# Altium integrated library Xilinx CoolRunner XPLA3.IntLib: 220 symbols (part 1 of 16)
Pins are listed as number, name and electrical type; pins without a type are passive.

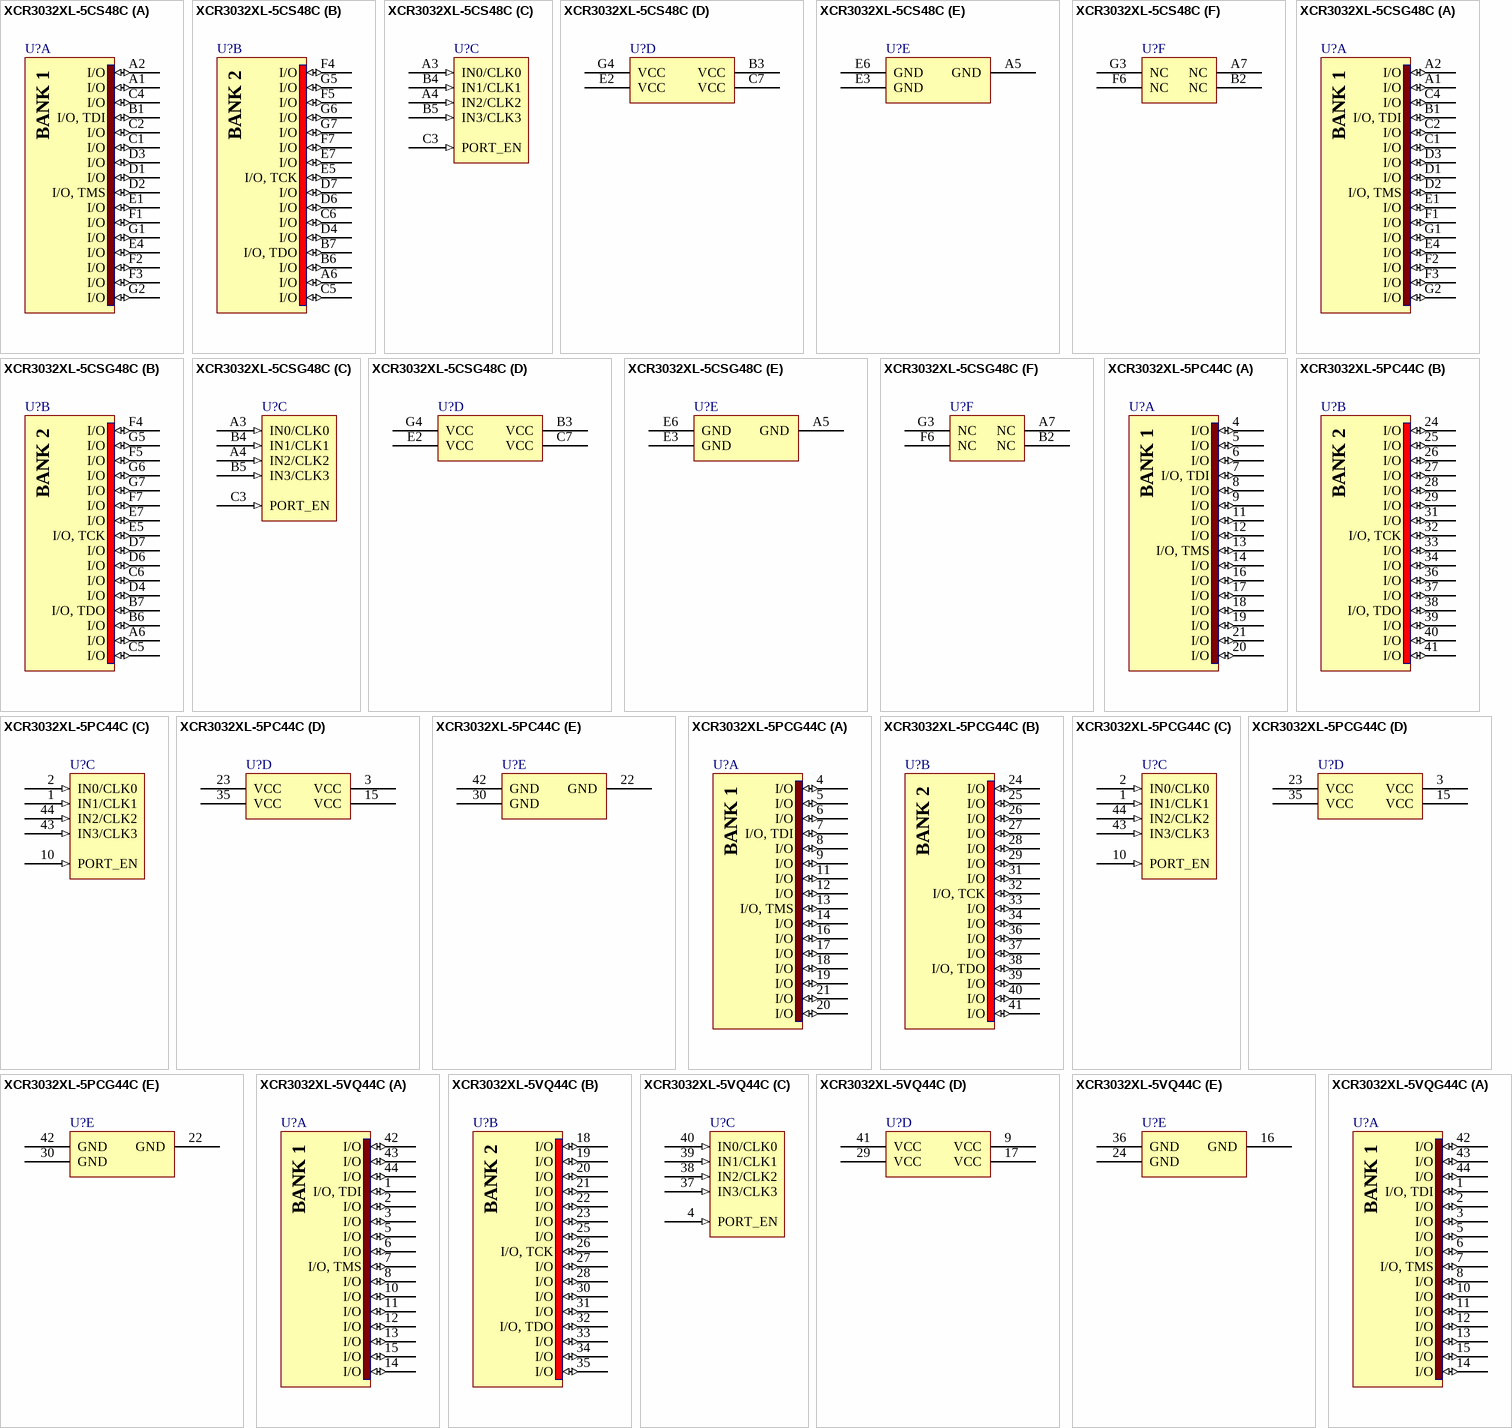
[diagram p0: symbols XCR3032XL-5CS48C to XCR3032XL-5VQG44C]

## XCR3032XL-5CS48C
designator U?
CoolRunner XPLA3 3.3V, 32 Macrocell CPLD, 36 User I/Os, 48-Ball CSBGA, Commercial Grade; DatasheetVersion: ver2.2, Sep-2008; PackageVersion: ver1.2.1, Apr-2005; PackageReference: CS48; PackageDescription: 48-Ball Chip Scale Ball Grid Array (CS48); ComponentLink1Description: Manufacturer URL; ComponentLink1URL: http://www.xilinx.com/; ComponentLink2Description: XCR3032XL Datasheet; ComponentLink2URL: http://www.xilinx.com/support/documentation/data_sheets/ds023.pdf; ComponentLink3Description: CS48 Package Drawing; ComponentLink3URL: http://www.xilinx.com/support/documentation/package_specs/cs48.pdf; ComponentLink4Description: CoolRunner XPLA3 Documents; ComponentLink4URL: http://www.xilinx.com/support/documentation/coolrunner_xpla3.htm
footprint CS48 (BGA, 48-Leads, Body 7x7mm, Pitch 0.8mm)
part A pins: A1 I/O (io), A2 I/O (io), B1 I/O, TDI (io), C1 I/O (io), C2 I/O (io), C4 I/O (io), D1 I/O (io), D2 I/O, TMS (io), D3 I/O (io), E1 I/O (io), E4 I/O (io), F1 I/O (io), F2 I/O (io), F3 I/O (io), G1 I/O (io), G2 I/O (io)
part B pins: A6 I/O (io), B6 I/O (io), B7 I/O, TDO (io), C5 I/O (io), C6 I/O (io), D4 I/O (io), D6 I/O (io), D7 I/O (io), E5 I/O, TCK (io), E7 I/O (io), F4 I/O (io), F5 I/O (io), F7 I/O (io), G5 I/O (io), G6 I/O (io), G7 I/O (io)
part C pins: A3 IN0/CLK0 (in), A4 IN2/CLK2 (in), B4 IN1/CLK1 (in), B5 IN3/CLK3 (in), C3 PORT_EN (in)
part D pins: B3 VCC (power), C7 VCC (power), E2 VCC (power), G4 VCC (power)
part E pins: A5 GND (power), E3 GND (power), E6 GND (power)
part F pins: A7 NC, B2 NC, F6 NC, G3 NC
part A text: BANK 1
part B text: BANK 2

## XCR3032XL-5CSG48C
designator U?
CoolRunner XPLA3 3.3V, 32 Macrocell CPLD, 36 User I/Os, 48-Ball CSBGA, Commercial Grade, Pb-Free; DatasheetVersion: ver2.2, Sep-2008; PackageVersion: ver1.2.1, Apr-2005; PackageReference: CSG48; PackageDescription: 48-Ball Chip Scale Ball Grid Array (CSG48) - Pb-Free; ComponentLink1Description: Manufacturer URL; ComponentLink1URL: http://www.xilinx.com/; ComponentLink2Description: XCR3032XL Datasheet; ComponentLink2URL: http://www.xilinx.com/support/documentation/data_sheets/ds023.pdf; ComponentLink3Description: CSG48 Package Drawing; ComponentLink3URL: http://www.xilinx.com/support/documentation/package_specs/cs48.pdf; ComponentLink4Description: CoolRunner XPLA3 Documents; ComponentLink4URL: http://www.xilinx.com/support/documentation/coolrunner_xpla3.htm
footprint CSG48 (BGA, 48-Leads, Body 7x7mm, Pitch 0.8mm)
part A pins: A1 I/O (io), A2 I/O (io), B1 I/O, TDI (io), C1 I/O (io), C2 I/O (io), C4 I/O (io), D1 I/O (io), D2 I/O, TMS (io), D3 I/O (io), E1 I/O (io), E4 I/O (io), F1 I/O (io), F2 I/O (io), F3 I/O (io), G1 I/O (io), G2 I/O (io)
part B pins: A6 I/O (io), B6 I/O (io), B7 I/O, TDO (io), C5 I/O (io), C6 I/O (io), D4 I/O (io), D6 I/O (io), D7 I/O (io), E5 I/O, TCK (io), E7 I/O (io), F4 I/O (io), F5 I/O (io), F7 I/O (io), G5 I/O (io), G6 I/O (io), G7 I/O (io)
part C pins: A3 IN0/CLK0 (in), A4 IN2/CLK2 (in), B4 IN1/CLK1 (in), B5 IN3/CLK3 (in), C3 PORT_EN (in)
part D pins: B3 VCC (power), C7 VCC (power), E2 VCC (power), G4 VCC (power)
part E pins: A5 GND (power), E3 GND (power), E6 GND (power)
part F pins: A7 NC, B2 NC, F6 NC, G3 NC
part A text: BANK 1
part B text: BANK 2

## XCR3032XL-5PC44C
designator U?
CoolRunner XPLA3 3.3V, 32 Macrocell CPLD, 36 User I/Os, 44-Pin PLCC, Commercial Grade; DatasheetVersion: ver2.1, Mar-2006; PackageVersion: ver1.2, Jun-2004; PackageReference: PC44; PackageDescription: 44-Pin Plastic Leaded Chip Carrier (PC44); Code_JEDEC: MS-047; Code_IPC: PLCC-44; ComponentLink1Description: Manufacturer URL; ComponentLink1URL: http://www.xilinx.com/; ComponentLink2Description: XCR3032XL Datasheet; ComponentLink2URL: http://www.xilinx.com/support/documentation/data_sheets/ds023.pdf; ComponentLink3Description: PC44 Package Drawing; ComponentLink3URL: http://www.xilinx.com/support/documentation/package_specs/pc44.pdf; ComponentLink4Description: CoolRunner XPLA3 Documents; ComponentLink4URL: http://www.xilinx.com/support/documentation/coolrunner_xpla3.htm
footprint PC44_N (Leaded Chip Carrier, 44-Leads, Body 16.6x16.6mm, Pitch 1.27mm, IPC Medium Density)
footprint PC44_L (Leaded Chip Carrier, 44-Leads, Body 16.6x16.6mm, Pitch 1.27mm, IPC High Density)
footprint PC44_M (Leaded Chip Carrier, 44-Leads, Body 16.6x16.6mm, Pitch 1.27mm, IPC Low Density)
part A pins: 4 I/O (io), 5 I/O (io), 6 I/O (io), 7 I/O, TDI (io), 8 I/O (io), 9 I/O (io), 11 I/O (io), 12 I/O (io), 13 I/O, TMS (io), 14 I/O (io), 16 I/O (io), 17 I/O (io), 18 I/O (io), 19 I/O (io), 20 I/O (io), 21 I/O (io)
part B pins: 24 I/O (io), 25 I/O (io), 26 I/O (io), 27 I/O (io), 28 I/O (io), 29 I/O (io), 31 I/O (io), 32 I/O, TCK (io), 33 I/O (io), 34 I/O (io), 36 I/O (io), 37 I/O (io), 38 I/O, TDO (io), 39 I/O (io), 40 I/O (io), 41 I/O (io)
part C pins: 1 IN1/CLK1 (in), 2 IN0/CLK0 (in), 10 PORT_EN (in), 43 IN3/CLK3 (in), 44 IN2/CLK2 (in)
part D pins: 3 VCC (power), 15 VCC (power), 23 VCC (power), 35 VCC (power)
part E pins: 22 GND (power), 30 GND (power), 42 GND (power)
part A text: BANK 1
part B text: BANK 2

## XCR3032XL-5PCG44C
designator U?
CoolRunner XPLA3 3.3V, 32 Macrocell CPLD, 36 User I/Os, 44-Pin PLCC, Commercial Grade, Pb-Free; DatasheetVersion: ver2.1, Mar-2006; PackageVersion: ver1.2, Jun-2004; PackageReference: PCG44; PackageDescription: 44-Pin Plastic Leaded Chip Carrier (PCG44) - Pb-Free; Code_JEDEC: MS-047; Code_IPC: PLCC-44; ComponentLink1Description: Manufacturer URL; ComponentLink1URL: http://www.xilinx.com/; ComponentLink2Description: XCR3032XL Datasheet; ComponentLink2URL: http://www.xilinx.com/support/documentation/data_sheets/ds023.pdf; ComponentLink3Description: PCG44 Package Drawing; ComponentLink3URL: http://www.xilinx.com/support/documentation/package_specs/pc44.pdf; ComponentLink4Description: CoolRunner XPLA3 Documents; ComponentLink4URL: http://www.xilinx.com/support/documentation/coolrunner_xpla3.htm
footprint PCG44_N (Leaded Chip Carrier, 44-Leads, Body 16.6x16.6mm, Pitch 1.27mm, IPC Medium Density)
footprint PCG44_L (Leaded Chip Carrier, 44-Leads, Body 16.6x16.6mm, Pitch 1.27mm, IPC High Density)
footprint PCG44_M (Leaded Chip Carrier, 44-Leads, Body 16.6x16.6mm, Pitch 1.27mm, IPC Low Density)
part A pins: 4 I/O (io), 5 I/O (io), 6 I/O (io), 7 I/O, TDI (io), 8 I/O (io), 9 I/O (io), 11 I/O (io), 12 I/O (io), 13 I/O, TMS (io), 14 I/O (io), 16 I/O (io), 17 I/O (io), 18 I/O (io), 19 I/O (io), 20 I/O (io), 21 I/O (io)
part B pins: 24 I/O (io), 25 I/O (io), 26 I/O (io), 27 I/O (io), 28 I/O (io), 29 I/O (io), 31 I/O (io), 32 I/O, TCK (io), 33 I/O (io), 34 I/O (io), 36 I/O (io), 37 I/O (io), 38 I/O, TDO (io), 39 I/O (io), 40 I/O (io), 41 I/O (io)
part C pins: 1 IN1/CLK1 (in), 2 IN0/CLK0 (in), 10 PORT_EN (in), 43 IN3/CLK3 (in), 44 IN2/CLK2 (in)
part D pins: 3 VCC (power), 15 VCC (power), 23 VCC (power), 35 VCC (power)
part E pins: 22 GND (power), 30 GND (power), 42 GND (power)
part A text: BANK 1
part B text: BANK 2

## XCR3032XL-5VQ44C
designator U?
CoolRunner XPLA3 3.3V, 32 Macrocell CPLD, 36 User I/Os, 44-Pin VQFP, Commercial Grade; DatasheetVersion: ver2.2, Sep-2008; PackageVersion: ver1.2, Jun-2004; PackageReference: VQ44; PackageDescription: 44-Pin Very Thin Quad Flat Pack (VQ44); Code_JEDEC: MS-026-ACB; ComponentLink1Description: Manufacturer URL; ComponentLink1URL: http://www.xilinx.com/; ComponentLink2Description: XCR3032XL Datasheet; ComponentLink2URL: http://www.xilinx.com/support/documentation/data_sheets/ds023.pdf; ComponentLink3Description: VQ44 Package Drawing; ComponentLink3URL: http://www.xilinx.com/support/documentation/package_specs/vq44.pdf; ComponentLink4Description: CoolRunner XPLA3 Documents; ComponentLink4URL: http://www.xilinx.com/support/documentation/coolrunner_xpla3.htm
footprint VQ44_N (Thin QFP, 44-Leads, Body 10x10mm, Pitch 0.8mm, IPC Medium Density)
footprint VQ44_L (Thin QFP, 44-Leads, Body 10x10mm, Pitch 0.8mm, IPC High Density)
footprint VQ44_M (Thin QFP, 44-Leads, Body 10x10mm, Pitch 0.8mm, IPC Low Density)
part A pins: 1 I/O, TDI (io), 2 I/O (io), 3 I/O (io), 5 I/O (io), 6 I/O (io), 7 I/O, TMS (io), 8 I/O (io), 10 I/O (io), 11 I/O (io), 12 I/O (io), 13 I/O (io), 14 I/O (io), 15 I/O (io), 42 I/O (io), 43 I/O (io), 44 I/O (io)
part B pins: 18 I/O (io), 19 I/O (io), 20 I/O (io), 21 I/O (io), 22 I/O (io), 23 I/O (io), 25 I/O (io), 26 I/O, TCK (io), 27 I/O (io), 28 I/O (io), 30 I/O (io), 31 I/O (io), 32 I/O, TDO (io), 33 I/O (io), 34 I/O (io), 35 I/O (io)
part C pins: 4 PORT_EN (in), 37 IN3/CLK3 (in), 38 IN2/CLK2 (in), 39 IN1/CLK1 (in), 40 IN0/CLK0 (in)
part D pins: 9 VCC (power), 17 VCC (power), 29 VCC (power), 41 VCC (power)
part E pins: 16 GND (power), 24 GND (power), 36 GND (power)
part A text: BANK 1
part B text: BANK 2

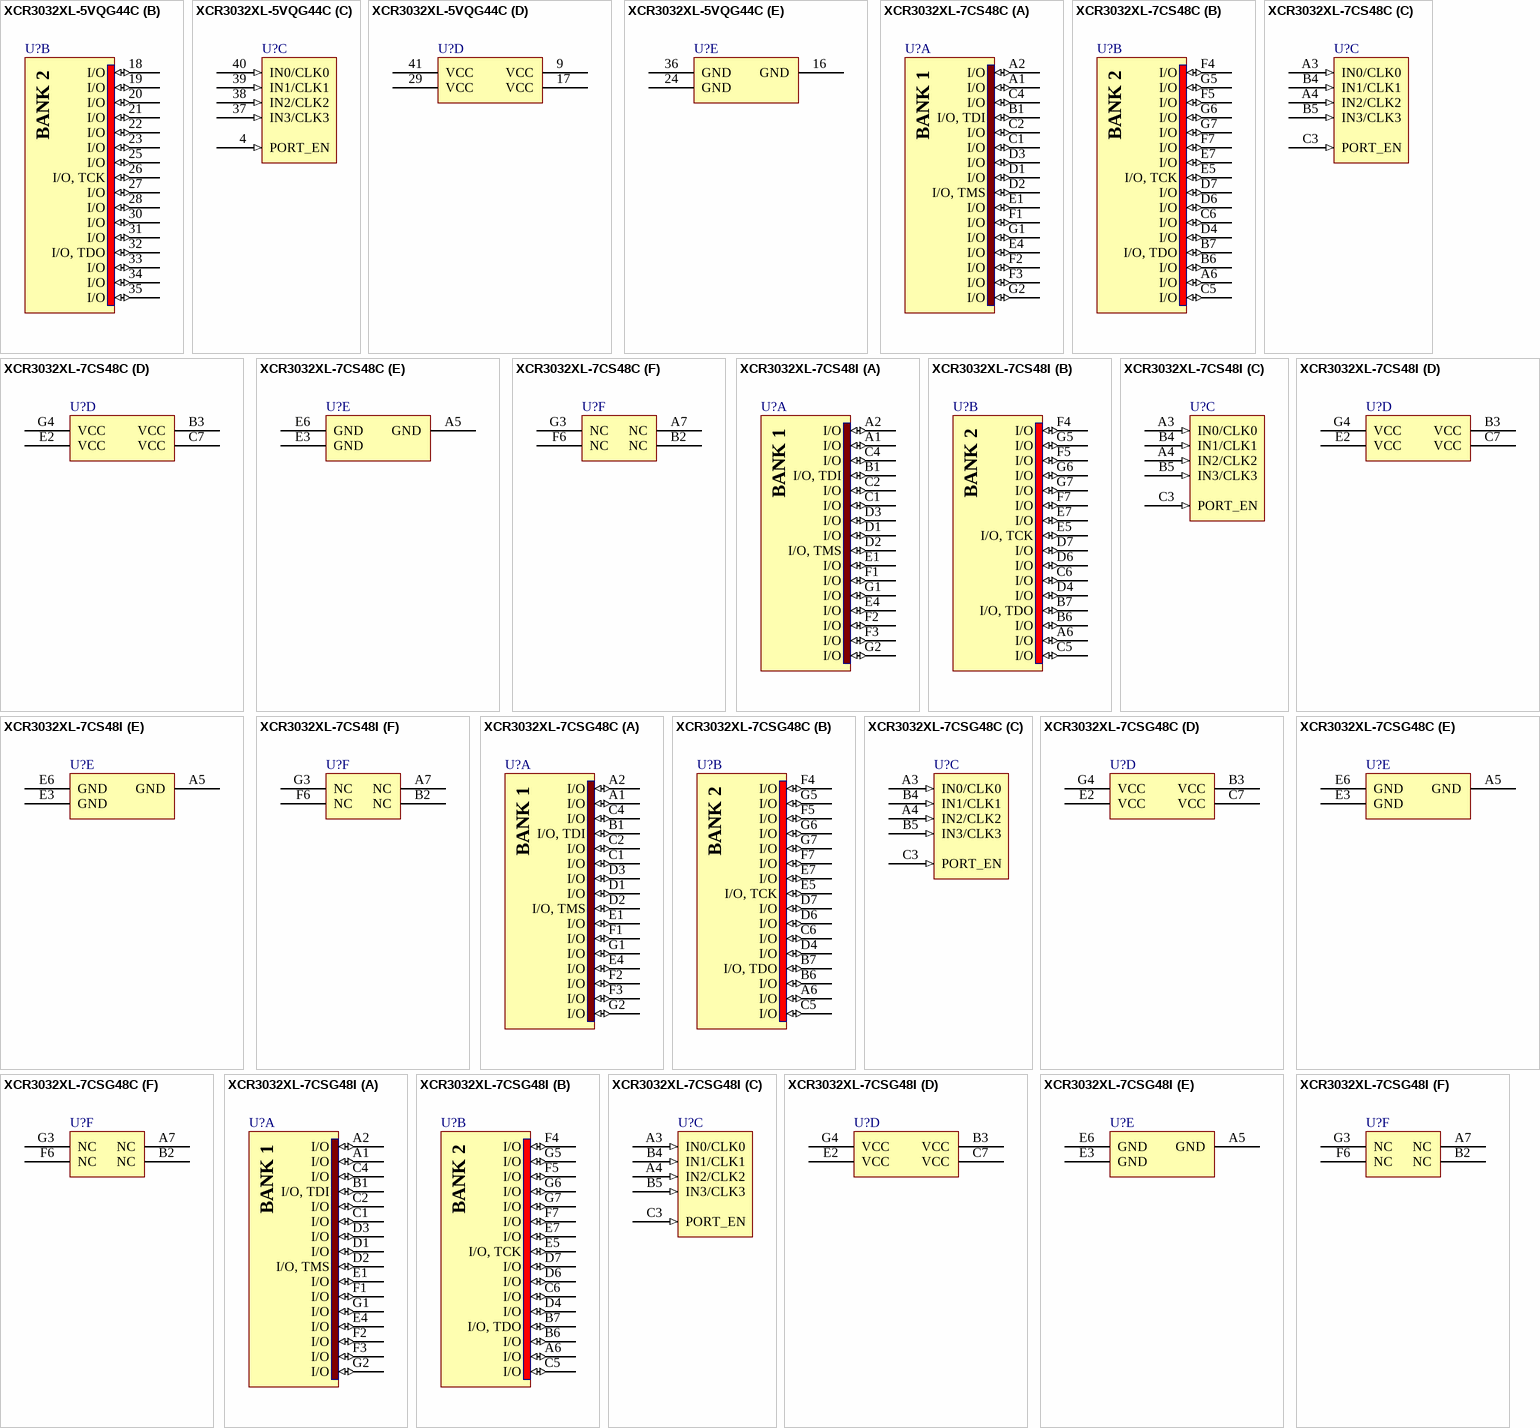
[diagram p1: symbols XCR3032XL-5VQG44C to XCR3032XL-7CSG48I]

## XCR3032XL-5VQG44C
designator U?
CoolRunner XPLA3 3.3V, 32 Macrocell CPLD, 36 User I/Os, 44-Pin VQFP, Commercial Grade, Pb-Free; DatasheetVersion: ver2.2, Sep-2008; PackageVersion: ver1.2, Jun-2004; PackageReference: VQG44; PackageDescription: 44-Pin Very Thin Quad Flat Pack (VQG44) - Pb-Free; Code_JEDEC: MS-026-ACB; ComponentLink1Description: Manufacturer URL; ComponentLink1URL: http://www.xilinx.com/; ComponentLink2Description: XCR3032XL Datasheet; ComponentLink2URL: http://www.xilinx.com/support/documentation/data_sheets/ds023.pdf; ComponentLink3Description: VQG44 Package Drawing; ComponentLink3URL: http://www.xilinx.com/support/documentation/package_specs/vq44.pdf; ComponentLink4Description: CoolRunner XPLA3 Documents; ComponentLink4URL: http://www.xilinx.com/support/documentation/coolrunner_xpla3.htm
footprint VQG44_N (Thin QFP, 44-Leads, Body 10x10mm, Pitch 0.8mm, IPC Medium Density)
footprint VQG44_L (Thin QFP, 44-Leads, Body 10x10mm, Pitch 0.8mm, IPC High Density)
footprint VQG44_M (Thin QFP, 44-Leads, Body 10x10mm, Pitch 0.8mm, IPC Low Density)
part A pins: 1 I/O, TDI (io), 2 I/O (io), 3 I/O (io), 5 I/O (io), 6 I/O (io), 7 I/O, TMS (io), 8 I/O (io), 10 I/O (io), 11 I/O (io), 12 I/O (io), 13 I/O (io), 14 I/O (io), 15 I/O (io), 42 I/O (io), 43 I/O (io), 44 I/O (io)
part B pins: 18 I/O (io), 19 I/O (io), 20 I/O (io), 21 I/O (io), 22 I/O (io), 23 I/O (io), 25 I/O (io), 26 I/O, TCK (io), 27 I/O (io), 28 I/O (io), 30 I/O (io), 31 I/O (io), 32 I/O, TDO (io), 33 I/O (io), 34 I/O (io), 35 I/O (io)
part C pins: 4 PORT_EN (in), 37 IN3/CLK3 (in), 38 IN2/CLK2 (in), 39 IN1/CLK1 (in), 40 IN0/CLK0 (in)
part D pins: 9 VCC (power), 17 VCC (power), 29 VCC (power), 41 VCC (power)
part E pins: 16 GND (power), 24 GND (power), 36 GND (power)
part A text: BANK 1
part B text: BANK 2

## XCR3032XL-7CS48C
designator U?
CoolRunner XPLA3 3.3V, 32 Macrocell CPLD, 36 User I/Os, 48-Ball CSBGA, Commercial Grade; DatasheetVersion: ver2.2, Sep-2008; PackageVersion: ver1.2.1, Apr-2005; PackageReference: CS48; PackageDescription: 48-Ball Chip Scale Ball Grid Array (CS48); ComponentLink1Description: Manufacturer URL; ComponentLink1URL: http://www.xilinx.com/; ComponentLink2Description: XCR3032XL Datasheet; ComponentLink2URL: http://www.xilinx.com/support/documentation/data_sheets/ds023.pdf; ComponentLink3Description: CS48 Package Drawing; ComponentLink3URL: http://www.xilinx.com/support/documentation/package_specs/cs48.pdf; ComponentLink4Description: CoolRunner XPLA3 Documents; ComponentLink4URL: http://www.xilinx.com/support/documentation/coolrunner_xpla3.htm
footprint CS48 (BGA, 48-Leads, Body 7x7mm, Pitch 0.8mm)
part A pins: A1 I/O (io), A2 I/O (io), B1 I/O, TDI (io), C1 I/O (io), C2 I/O (io), C4 I/O (io), D1 I/O (io), D2 I/O, TMS (io), D3 I/O (io), E1 I/O (io), E4 I/O (io), F1 I/O (io), F2 I/O (io), F3 I/O (io), G1 I/O (io), G2 I/O (io)
part B pins: A6 I/O (io), B6 I/O (io), B7 I/O, TDO (io), C5 I/O (io), C6 I/O (io), D4 I/O (io), D6 I/O (io), D7 I/O (io), E5 I/O, TCK (io), E7 I/O (io), F4 I/O (io), F5 I/O (io), F7 I/O (io), G5 I/O (io), G6 I/O (io), G7 I/O (io)
part C pins: A3 IN0/CLK0 (in), A4 IN2/CLK2 (in), B4 IN1/CLK1 (in), B5 IN3/CLK3 (in), C3 PORT_EN (in)
part D pins: B3 VCC (power), C7 VCC (power), E2 VCC (power), G4 VCC (power)
part E pins: A5 GND (power), E3 GND (power), E6 GND (power)
part F pins: A7 NC, B2 NC, F6 NC, G3 NC
part A text: BANK 1
part B text: BANK 2

## XCR3032XL-7CS48I
designator U?
CoolRunner XPLA3 3.3V, 32 Macrocell CPLD, 36 User I/Os, 48-Ball CSBGA, Industrial Grade; DatasheetVersion: ver2.2, Sep-2008; PackageVersion: ver1.2.1, Apr-2005; PackageReference: CS48; PackageDescription: 48-Ball Chip Scale Ball Grid Array (CS48); ComponentLink1Description: Manufacturer URL; ComponentLink1URL: http://www.xilinx.com/; ComponentLink2Description: XCR3032XL Datasheet; ComponentLink2URL: http://www.xilinx.com/support/documentation/data_sheets/ds023.pdf; ComponentLink3Description: CS48 Package Drawing; ComponentLink3URL: http://www.xilinx.com/support/documentation/package_specs/cs48.pdf; ComponentLink4Description: CoolRunner XPLA3 Documents; ComponentLink4URL: http://www.xilinx.com/support/documentation/coolrunner_xpla3.htm
footprint CS48 (BGA, 48-Leads, Body 7x7mm, Pitch 0.8mm)
part A pins: A1 I/O (io), A2 I/O (io), B1 I/O, TDI (io), C1 I/O (io), C2 I/O (io), C4 I/O (io), D1 I/O (io), D2 I/O, TMS (io), D3 I/O (io), E1 I/O (io), E4 I/O (io), F1 I/O (io), F2 I/O (io), F3 I/O (io), G1 I/O (io), G2 I/O (io)
part B pins: A6 I/O (io), B6 I/O (io), B7 I/O, TDO (io), C5 I/O (io), C6 I/O (io), D4 I/O (io), D6 I/O (io), D7 I/O (io), E5 I/O, TCK (io), E7 I/O (io), F4 I/O (io), F5 I/O (io), F7 I/O (io), G5 I/O (io), G6 I/O (io), G7 I/O (io)
part C pins: A3 IN0/CLK0 (in), A4 IN2/CLK2 (in), B4 IN1/CLK1 (in), B5 IN3/CLK3 (in), C3 PORT_EN (in)
part D pins: B3 VCC (power), C7 VCC (power), E2 VCC (power), G4 VCC (power)
part E pins: A5 GND (power), E3 GND (power), E6 GND (power)
part F pins: A7 NC, B2 NC, F6 NC, G3 NC
part A text: BANK 1
part B text: BANK 2

## XCR3032XL-7CSG48C
designator U?
CoolRunner XPLA3 3.3V, 32 Macrocell CPLD, 36 User I/Os, 48-Ball CSBGA, Commercial Grade, Pb-Free; DatasheetVersion: ver2.2, Sep-2008; PackageVersion: ver1.2.1, Apr-2005; PackageReference: CSG48; PackageDescription: 48-Ball Chip Scale Ball Grid Array (CSG48) - Pb-Free; ComponentLink1Description: Manufacturer URL; ComponentLink1URL: http://www.xilinx.com/; ComponentLink2Description: XCR3032XL Datasheet; ComponentLink2URL: http://www.xilinx.com/support/documentation/data_sheets/ds023.pdf; ComponentLink3Description: CSG48 Package Drawing; ComponentLink3URL: http://www.xilinx.com/support/documentation/package_specs/cs48.pdf; ComponentLink4Description: CoolRunner XPLA3 Documents; ComponentLink4URL: http://www.xilinx.com/support/documentation/coolrunner_xpla3.htm
footprint CSG48 (BGA, 48-Leads, Body 7x7mm, Pitch 0.8mm)
part A pins: A1 I/O (io), A2 I/O (io), B1 I/O, TDI (io), C1 I/O (io), C2 I/O (io), C4 I/O (io), D1 I/O (io), D2 I/O, TMS (io), D3 I/O (io), E1 I/O (io), E4 I/O (io), F1 I/O (io), F2 I/O (io), F3 I/O (io), G1 I/O (io), G2 I/O (io)
part B pins: A6 I/O (io), B6 I/O (io), B7 I/O, TDO (io), C5 I/O (io), C6 I/O (io), D4 I/O (io), D6 I/O (io), D7 I/O (io), E5 I/O, TCK (io), E7 I/O (io), F4 I/O (io), F5 I/O (io), F7 I/O (io), G5 I/O (io), G6 I/O (io), G7 I/O (io)
part C pins: A3 IN0/CLK0 (in), A4 IN2/CLK2 (in), B4 IN1/CLK1 (in), B5 IN3/CLK3 (in), C3 PORT_EN (in)
part D pins: B3 VCC (power), C7 VCC (power), E2 VCC (power), G4 VCC (power)
part E pins: A5 GND (power), E3 GND (power), E6 GND (power)
part F pins: A7 NC, B2 NC, F6 NC, G3 NC
part A text: BANK 1
part B text: BANK 2

## XCR3032XL-7CSG48I
designator U?
CoolRunner XPLA3 3.3V, 32 Macrocell CPLD, 36 User I/Os, 48-Ball CSBGA, Industrial Grade, Pb-Free; DatasheetVersion: ver2.2, Sep-2008; PackageVersion: ver1.2.1, Apr-2005; PackageReference: CSG48; PackageDescription: 48-Ball Chip Scale Ball Grid Array (CSG48) - Pb-Free; ComponentLink1Description: Manufacturer URL; ComponentLink1URL: http://www.xilinx.com/; ComponentLink2Description: XCR3032XL Datasheet; ComponentLink2URL: http://www.xilinx.com/support/documentation/data_sheets/ds023.pdf; ComponentLink3Description: CSG48 Package Drawing; ComponentLink3URL: http://www.xilinx.com/support/documentation/package_specs/cs48.pdf; ComponentLink4Description: CoolRunner XPLA3 Documents; ComponentLink4URL: http://www.xilinx.com/support/documentation/coolrunner_xpla3.htm
footprint CSG48 (BGA, 48-Leads, Body 7x7mm, Pitch 0.8mm)
part A pins: A1 I/O (io), A2 I/O (io), B1 I/O, TDI (io), C1 I/O (io), C2 I/O (io), C4 I/O (io), D1 I/O (io), D2 I/O, TMS (io), D3 I/O (io), E1 I/O (io), E4 I/O (io), F1 I/O (io), F2 I/O (io), F3 I/O (io), G1 I/O (io), G2 I/O (io)
part B pins: A6 I/O (io), B6 I/O (io), B7 I/O, TDO (io), C5 I/O (io), C6 I/O (io), D4 I/O (io), D6 I/O (io), D7 I/O (io), E5 I/O, TCK (io), E7 I/O (io), F4 I/O (io), F5 I/O (io), F7 I/O (io), G5 I/O (io), G6 I/O (io), G7 I/O (io)
part C pins: A3 IN0/CLK0 (in), A4 IN2/CLK2 (in), B4 IN1/CLK1 (in), B5 IN3/CLK3 (in), C3 PORT_EN (in)
part D pins: B3 VCC (power), C7 VCC (power), E2 VCC (power), G4 VCC (power)
part E pins: A5 GND (power), E3 GND (power), E6 GND (power)
part F pins: A7 NC, B2 NC, F6 NC, G3 NC
part A text: BANK 1
part B text: BANK 2

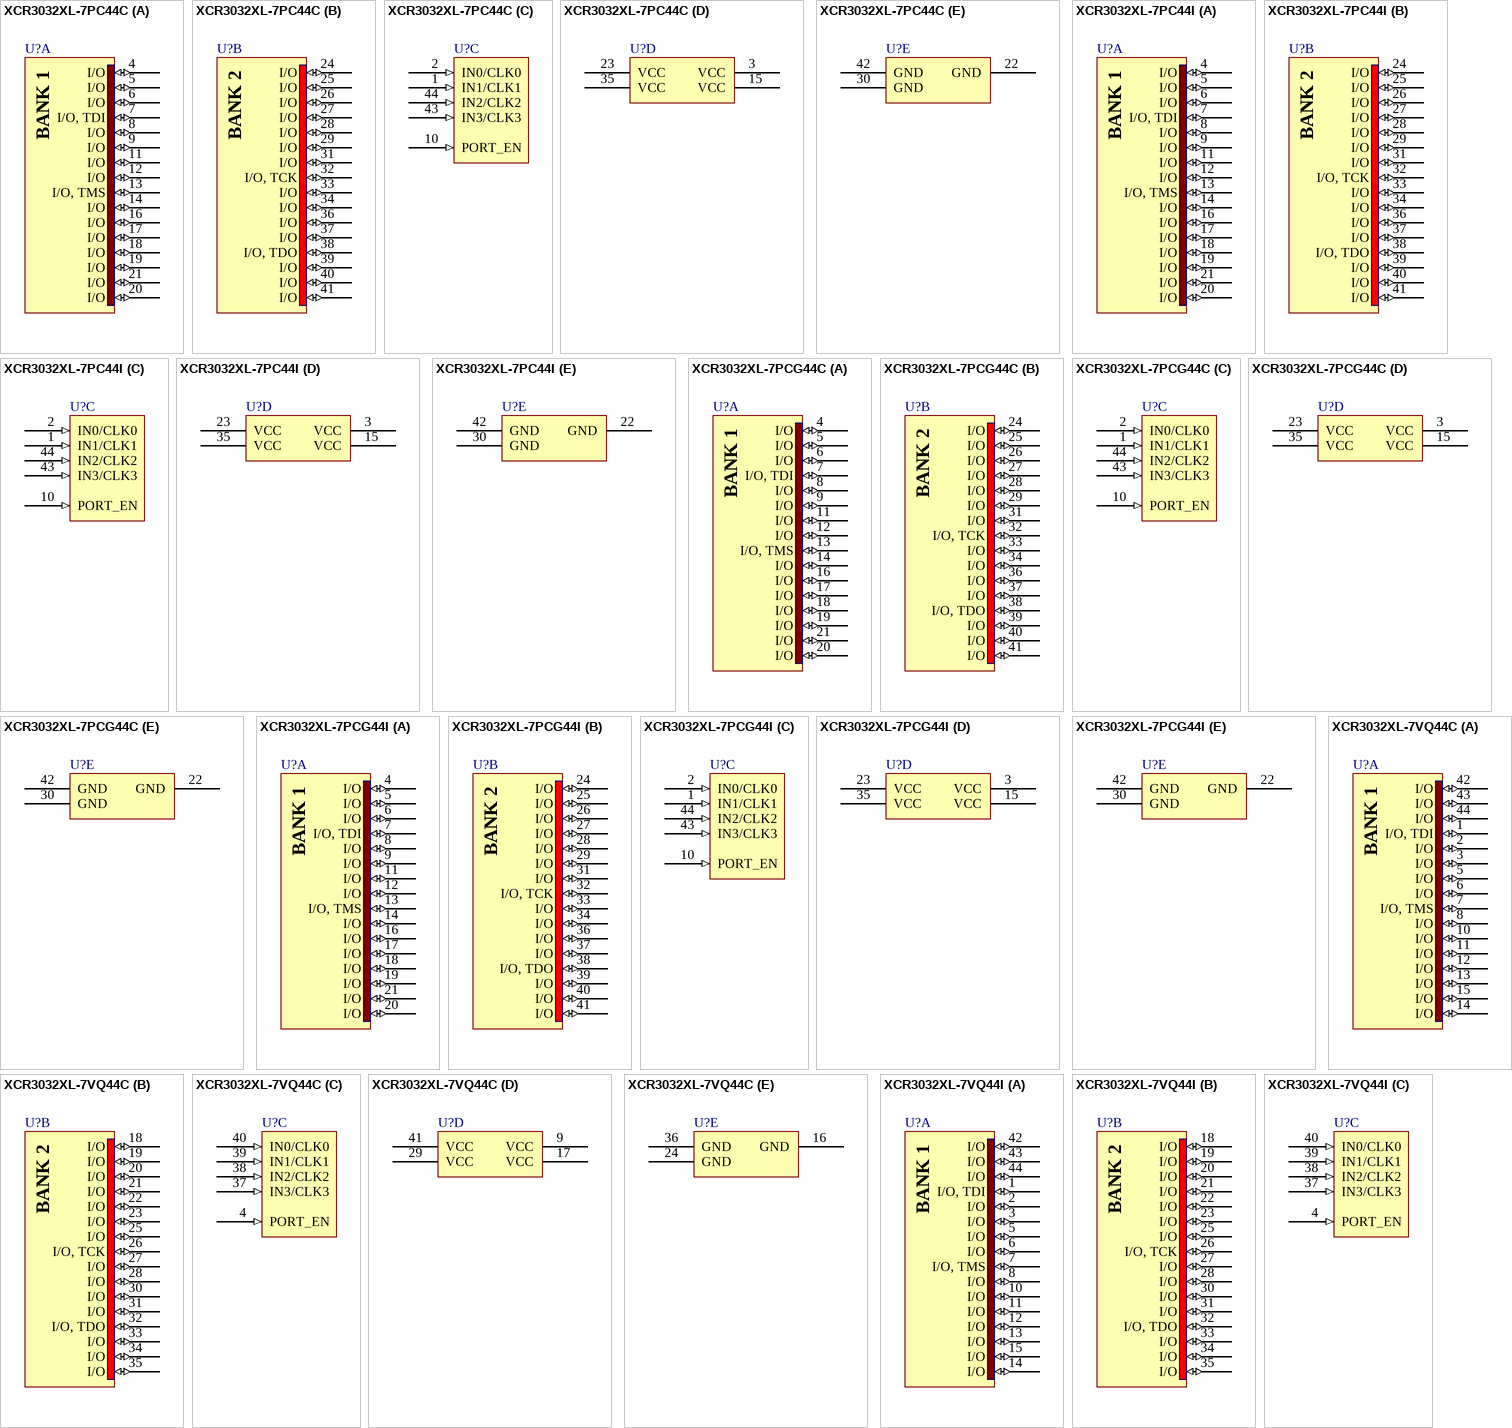
[diagram p2: symbols XCR3032XL-7PC44C to XCR3032XL-7VQ44I]

## XCR3032XL-7PC44C
designator U?
CoolRunner XPLA3 3.3V, 32 Macrocell CPLD, 36 User I/Os, 44-Pin PLCC, Commercial Grade; DatasheetVersion: ver2.1, Mar-2006; PackageVersion: ver1.2, Jun-2004; PackageReference: PC44; PackageDescription: 44-Pin Plastic Leaded Chip Carrier (PC44); Code_JEDEC: MS-047; Code_IPC: PLCC-44; ComponentLink1Description: Manufacturer URL; ComponentLink1URL: http://www.xilinx.com/; ComponentLink2Description: XCR3032XL Datasheet; ComponentLink2URL: http://www.xilinx.com/support/documentation/data_sheets/ds023.pdf; ComponentLink3Description: PC44 Package Drawing; ComponentLink3URL: http://www.xilinx.com/support/documentation/package_specs/pc44.pdf; ComponentLink4Description: CoolRunner XPLA3 Documents; ComponentLink4URL: http://www.xilinx.com/support/documentation/coolrunner_xpla3.htm
footprint PC44_N (Leaded Chip Carrier, 44-Leads, Body 16.6x16.6mm, Pitch 1.27mm, IPC Medium Density)
footprint PC44_L (Leaded Chip Carrier, 44-Leads, Body 16.6x16.6mm, Pitch 1.27mm, IPC High Density)
footprint PC44_M (Leaded Chip Carrier, 44-Leads, Body 16.6x16.6mm, Pitch 1.27mm, IPC Low Density)
part A pins: 4 I/O (io), 5 I/O (io), 6 I/O (io), 7 I/O, TDI (io), 8 I/O (io), 9 I/O (io), 11 I/O (io), 12 I/O (io), 13 I/O, TMS (io), 14 I/O (io), 16 I/O (io), 17 I/O (io), 18 I/O (io), 19 I/O (io), 20 I/O (io), 21 I/O (io)
part B pins: 24 I/O (io), 25 I/O (io), 26 I/O (io), 27 I/O (io), 28 I/O (io), 29 I/O (io), 31 I/O (io), 32 I/O, TCK (io), 33 I/O (io), 34 I/O (io), 36 I/O (io), 37 I/O (io), 38 I/O, TDO (io), 39 I/O (io), 40 I/O (io), 41 I/O (io)
part C pins: 1 IN1/CLK1 (in), 2 IN0/CLK0 (in), 10 PORT_EN (in), 43 IN3/CLK3 (in), 44 IN2/CLK2 (in)
part D pins: 3 VCC (power), 15 VCC (power), 23 VCC (power), 35 VCC (power)
part E pins: 22 GND (power), 30 GND (power), 42 GND (power)
part A text: BANK 1
part B text: BANK 2

## XCR3032XL-7PC44I
designator U?
CoolRunner XPLA3 3.3V, 32 Macrocell CPLD, 36 User I/Os, 44-Pin PLCC, Industrial Grade; DatasheetVersion: ver2.1, Mar-2006; PackageVersion: ver1.2, Jun-2004; PackageReference: PC44; PackageDescription: 44-Pin Plastic Leaded Chip Carrier (PC44); Code_JEDEC: MS-047; Code_IPC: PLCC-44; ComponentLink1Description: Manufacturer URL; ComponentLink1URL: http://www.xilinx.com/; ComponentLink2Description: XCR3032XL Datasheet; ComponentLink2URL: http://www.xilinx.com/support/documentation/data_sheets/ds023.pdf; ComponentLink3Description: PC44 Package Drawing; ComponentLink3URL: http://www.xilinx.com/support/documentation/package_specs/pc44.pdf; ComponentLink4Description: CoolRunner XPLA3 Documents; ComponentLink4URL: http://www.xilinx.com/support/documentation/coolrunner_xpla3.htm
footprint PC44_N (Leaded Chip Carrier, 44-Leads, Body 16.6x16.6mm, Pitch 1.27mm, IPC Medium Density)
footprint PC44_L (Leaded Chip Carrier, 44-Leads, Body 16.6x16.6mm, Pitch 1.27mm, IPC High Density)
footprint PC44_M (Leaded Chip Carrier, 44-Leads, Body 16.6x16.6mm, Pitch 1.27mm, IPC Low Density)
part A pins: 4 I/O (io), 5 I/O (io), 6 I/O (io), 7 I/O, TDI (io), 8 I/O (io), 9 I/O (io), 11 I/O (io), 12 I/O (io), 13 I/O, TMS (io), 14 I/O (io), 16 I/O (io), 17 I/O (io), 18 I/O (io), 19 I/O (io), 20 I/O (io), 21 I/O (io)
part B pins: 24 I/O (io), 25 I/O (io), 26 I/O (io), 27 I/O (io), 28 I/O (io), 29 I/O (io), 31 I/O (io), 32 I/O, TCK (io), 33 I/O (io), 34 I/O (io), 36 I/O (io), 37 I/O (io), 38 I/O, TDO (io), 39 I/O (io), 40 I/O (io), 41 I/O (io)
part C pins: 1 IN1/CLK1 (in), 2 IN0/CLK0 (in), 10 PORT_EN (in), 43 IN3/CLK3 (in), 44 IN2/CLK2 (in)
part D pins: 3 VCC (power), 15 VCC (power), 23 VCC (power), 35 VCC (power)
part E pins: 22 GND (power), 30 GND (power), 42 GND (power)
part A text: BANK 1
part B text: BANK 2

## XCR3032XL-7PCG44C
designator U?
CoolRunner XPLA3 3.3V, 32 Macrocell CPLD, 36 User I/Os, 44-Pin PLCC, Commercial Grade, Pb-Free; DatasheetVersion: ver2.1, Mar-2006; PackageVersion: ver1.2, Jun-2004; PackageReference: PCG44; PackageDescription: 44-Pin Plastic Leaded Chip Carrier (PCG44) - Pb-Free; Code_JEDEC: MS-047; Code_IPC: PLCC-44; ComponentLink1Description: Manufacturer URL; ComponentLink1URL: http://www.xilinx.com/; ComponentLink2Description: XCR3032XL Datasheet; ComponentLink2URL: http://www.xilinx.com/support/documentation/data_sheets/ds023.pdf; ComponentLink3Description: PCG44 Package Drawing; ComponentLink3URL: http://www.xilinx.com/support/documentation/package_specs/pc44.pdf; ComponentLink4Description: CoolRunner XPLA3 Documents; ComponentLink4URL: http://www.xilinx.com/support/documentation/coolrunner_xpla3.htm
footprint PCG44_N (Leaded Chip Carrier, 44-Leads, Body 16.6x16.6mm, Pitch 1.27mm, IPC Medium Density)
footprint PCG44_L (Leaded Chip Carrier, 44-Leads, Body 16.6x16.6mm, Pitch 1.27mm, IPC High Density)
footprint PCG44_M (Leaded Chip Carrier, 44-Leads, Body 16.6x16.6mm, Pitch 1.27mm, IPC Low Density)
part A pins: 4 I/O (io), 5 I/O (io), 6 I/O (io), 7 I/O, TDI (io), 8 I/O (io), 9 I/O (io), 11 I/O (io), 12 I/O (io), 13 I/O, TMS (io), 14 I/O (io), 16 I/O (io), 17 I/O (io), 18 I/O (io), 19 I/O (io), 20 I/O (io), 21 I/O (io)
part B pins: 24 I/O (io), 25 I/O (io), 26 I/O (io), 27 I/O (io), 28 I/O (io), 29 I/O (io), 31 I/O (io), 32 I/O, TCK (io), 33 I/O (io), 34 I/O (io), 36 I/O (io), 37 I/O (io), 38 I/O, TDO (io), 39 I/O (io), 40 I/O (io), 41 I/O (io)
part C pins: 1 IN1/CLK1 (in), 2 IN0/CLK0 (in), 10 PORT_EN (in), 43 IN3/CLK3 (in), 44 IN2/CLK2 (in)
part D pins: 3 VCC (power), 15 VCC (power), 23 VCC (power), 35 VCC (power)
part E pins: 22 GND (power), 30 GND (power), 42 GND (power)
part A text: BANK 1
part B text: BANK 2

## XCR3032XL-7PCG44I
designator U?
CoolRunner XPLA3 3.3V, 32 Macrocell CPLD, 36 User I/Os, 44-Pin PLCC, Industrial Grade, Pb-Free; DatasheetVersion: ver2.1, Mar-2006; PackageVersion: ver1.2, Jun-2004; PackageReference: PCG44; PackageDescription: 44-Pin Plastic Leaded Chip Carrier (PCG44) - Pb-Free; Code_JEDEC: MS-047; Code_IPC: PLCC-44; ComponentLink1Description: Manufacturer URL; ComponentLink1URL: http://www.xilinx.com/; ComponentLink2Description: XCR3032XL Datasheet; ComponentLink2URL: http://www.xilinx.com/support/documentation/data_sheets/ds023.pdf; ComponentLink3Description: PCG44 Package Drawing; ComponentLink3URL: http://www.xilinx.com/support/documentation/package_specs/pc44.pdf; ComponentLink4Description: CoolRunner XPLA3 Documents; ComponentLink4URL: http://www.xilinx.com/support/documentation/coolrunner_xpla3.htm
footprint PCG44_N (Leaded Chip Carrier, 44-Leads, Body 16.6x16.6mm, Pitch 1.27mm, IPC Medium Density)
footprint PCG44_L (Leaded Chip Carrier, 44-Leads, Body 16.6x16.6mm, Pitch 1.27mm, IPC High Density)
footprint PCG44_M (Leaded Chip Carrier, 44-Leads, Body 16.6x16.6mm, Pitch 1.27mm, IPC Low Density)
part A pins: 4 I/O (io), 5 I/O (io), 6 I/O (io), 7 I/O, TDI (io), 8 I/O (io), 9 I/O (io), 11 I/O (io), 12 I/O (io), 13 I/O, TMS (io), 14 I/O (io), 16 I/O (io), 17 I/O (io), 18 I/O (io), 19 I/O (io), 20 I/O (io), 21 I/O (io)
part B pins: 24 I/O (io), 25 I/O (io), 26 I/O (io), 27 I/O (io), 28 I/O (io), 29 I/O (io), 31 I/O (io), 32 I/O, TCK (io), 33 I/O (io), 34 I/O (io), 36 I/O (io), 37 I/O (io), 38 I/O, TDO (io), 39 I/O (io), 40 I/O (io), 41 I/O (io)
part C pins: 1 IN1/CLK1 (in), 2 IN0/CLK0 (in), 10 PORT_EN (in), 43 IN3/CLK3 (in), 44 IN2/CLK2 (in)
part D pins: 3 VCC (power), 15 VCC (power), 23 VCC (power), 35 VCC (power)
part E pins: 22 GND (power), 30 GND (power), 42 GND (power)
part A text: BANK 1
part B text: BANK 2

## XCR3032XL-7VQ44C
designator U?
CoolRunner XPLA3 3.3V, 32 Macrocell CPLD, 36 User I/Os, 44-Pin VQFP, Commercial Grade; DatasheetVersion: ver2.2, Sep-2008; PackageVersion: ver1.2, Jun-2004; PackageReference: VQ44; PackageDescription: 44-Pin Very Thin Quad Flat Pack (VQ44); Code_JEDEC: MS-026-ACB; ComponentLink1Description: Manufacturer URL; ComponentLink1URL: http://www.xilinx.com/; ComponentLink2Description: XCR3032XL Datasheet; ComponentLink2URL: http://www.xilinx.com/support/documentation/data_sheets/ds023.pdf; ComponentLink3Description: VQ44 Package Drawing; ComponentLink3URL: http://www.xilinx.com/support/documentation/package_specs/vq44.pdf; ComponentLink4Description: CoolRunner XPLA3 Documents; ComponentLink4URL: http://www.xilinx.com/support/documentation/coolrunner_xpla3.htm
footprint VQ44_N (Thin QFP, 44-Leads, Body 10x10mm, Pitch 0.8mm, IPC Medium Density)
footprint VQ44_L (Thin QFP, 44-Leads, Body 10x10mm, Pitch 0.8mm, IPC High Density)
footprint VQ44_M (Thin QFP, 44-Leads, Body 10x10mm, Pitch 0.8mm, IPC Low Density)
part A pins: 1 I/O, TDI (io), 2 I/O (io), 3 I/O (io), 5 I/O (io), 6 I/O (io), 7 I/O, TMS (io), 8 I/O (io), 10 I/O (io), 11 I/O (io), 12 I/O (io), 13 I/O (io), 14 I/O (io), 15 I/O (io), 42 I/O (io), 43 I/O (io), 44 I/O (io)
part B pins: 18 I/O (io), 19 I/O (io), 20 I/O (io), 21 I/O (io), 22 I/O (io), 23 I/O (io), 25 I/O (io), 26 I/O, TCK (io), 27 I/O (io), 28 I/O (io), 30 I/O (io), 31 I/O (io), 32 I/O, TDO (io), 33 I/O (io), 34 I/O (io), 35 I/O (io)
part C pins: 4 PORT_EN (in), 37 IN3/CLK3 (in), 38 IN2/CLK2 (in), 39 IN1/CLK1 (in), 40 IN0/CLK0 (in)
part D pins: 9 VCC (power), 17 VCC (power), 29 VCC (power), 41 VCC (power)
part E pins: 16 GND (power), 24 GND (power), 36 GND (power)
part A text: BANK 1
part B text: BANK 2

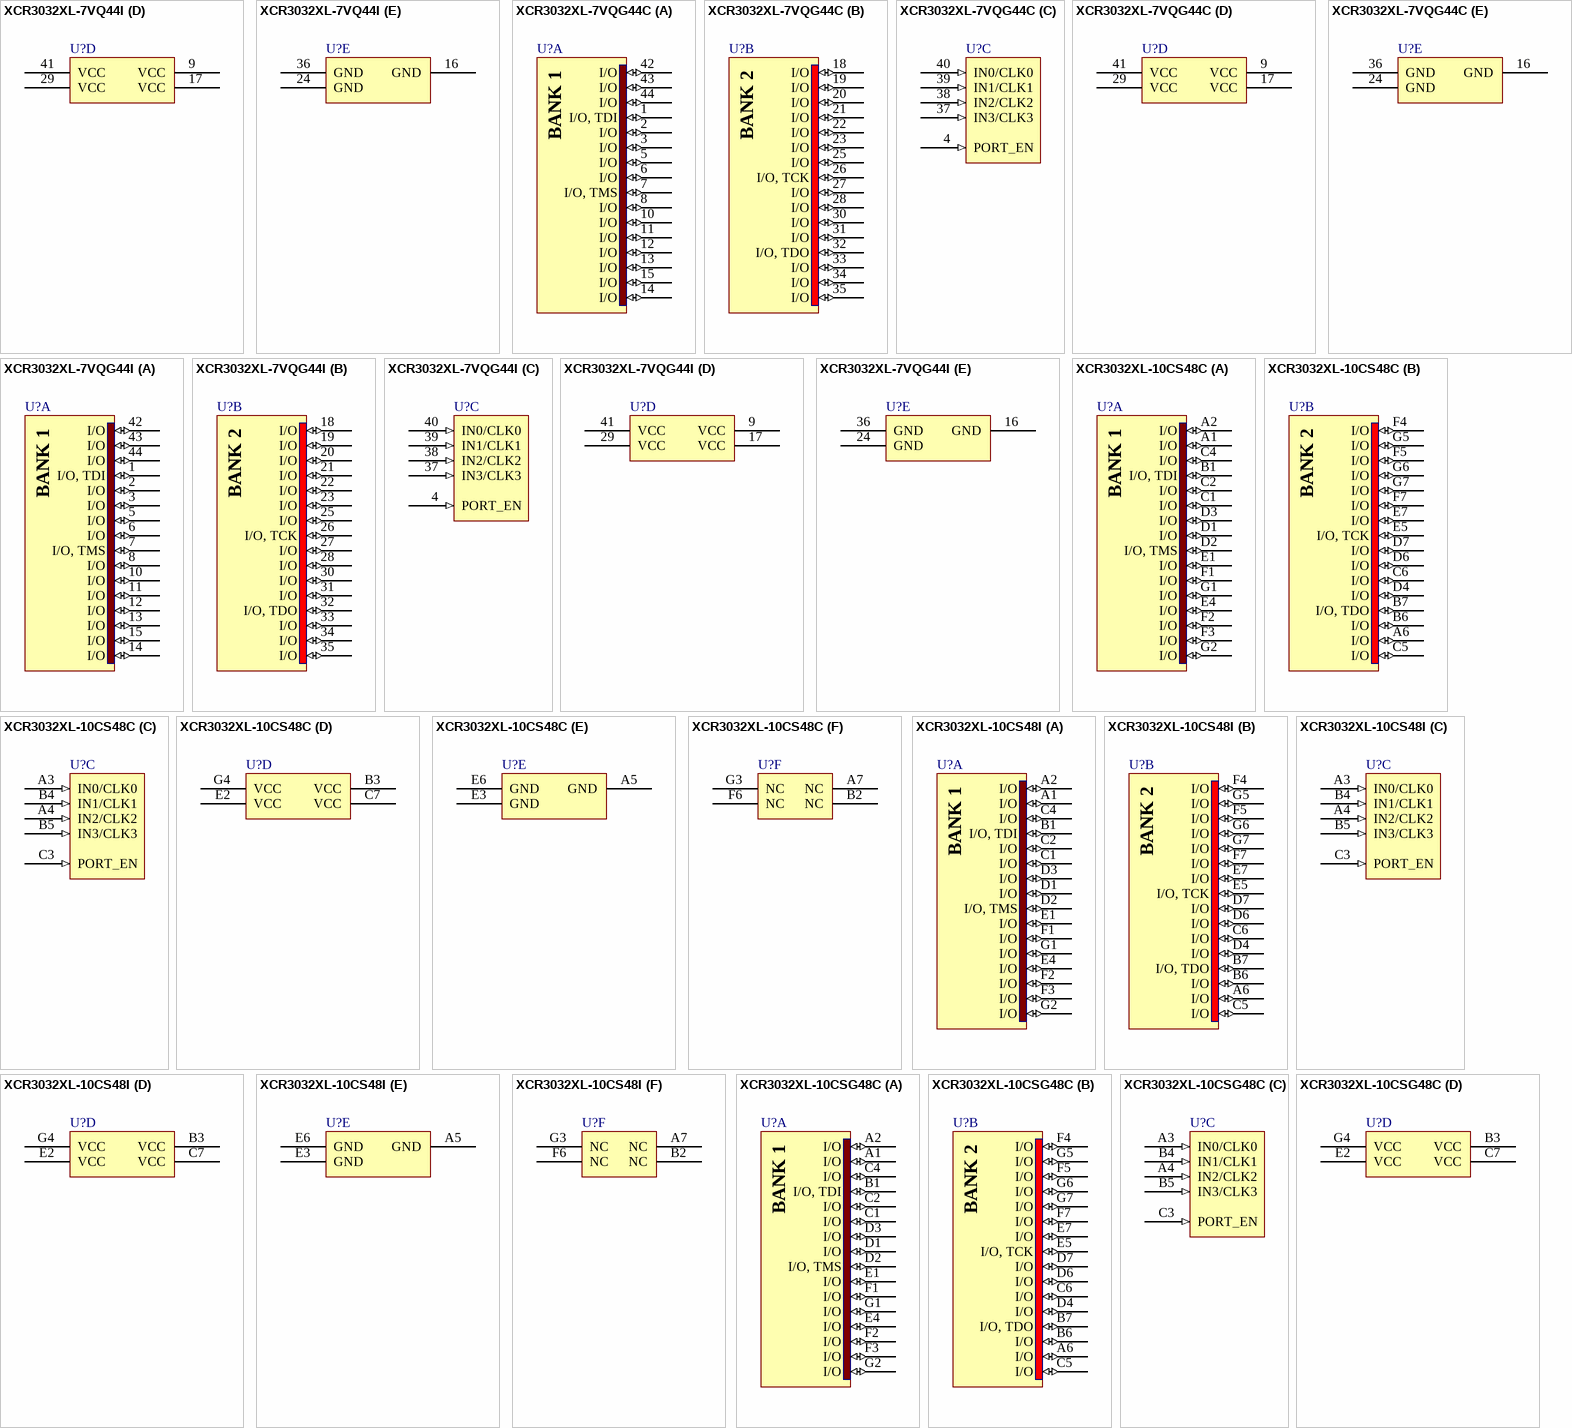
[diagram p3: symbols XCR3032XL-7VQ44I to XCR3032XL-10CSG48C]

## XCR3032XL-7VQ44I
designator U?
CoolRunner XPLA3 3.3V, 32 Macrocell CPLD, 36 User I/Os, 44-Pin VQFP, Industrial Grade; DatasheetVersion: ver2.2, Sep-2008; PackageVersion: ver1.2, Jun-2004; PackageReference: VQ44; PackageDescription: 44-Pin Very Thin Quad Flat Pack (VQ44); Code_JEDEC: MS-026-ACB; ComponentLink1Description: Manufacturer URL; ComponentLink1URL: http://www.xilinx.com/; ComponentLink2Description: XCR3032XL Datasheet; ComponentLink2URL: http://www.xilinx.com/support/documentation/data_sheets/ds023.pdf; ComponentLink3Description: VQ44 Package Drawing; ComponentLink3URL: http://www.xilinx.com/support/documentation/package_specs/vq44.pdf; ComponentLink4Description: CoolRunner XPLA3 Documents; ComponentLink4URL: http://www.xilinx.com/support/documentation/coolrunner_xpla3.htm
footprint VQ44_N (Thin QFP, 44-Leads, Body 10x10mm, Pitch 0.8mm, IPC Medium Density)
footprint VQ44_L (Thin QFP, 44-Leads, Body 10x10mm, Pitch 0.8mm, IPC High Density)
footprint VQ44_M (Thin QFP, 44-Leads, Body 10x10mm, Pitch 0.8mm, IPC Low Density)
part A pins: 1 I/O, TDI (io), 2 I/O (io), 3 I/O (io), 5 I/O (io), 6 I/O (io), 7 I/O, TMS (io), 8 I/O (io), 10 I/O (io), 11 I/O (io), 12 I/O (io), 13 I/O (io), 14 I/O (io), 15 I/O (io), 42 I/O (io), 43 I/O (io), 44 I/O (io)
part B pins: 18 I/O (io), 19 I/O (io), 20 I/O (io), 21 I/O (io), 22 I/O (io), 23 I/O (io), 25 I/O (io), 26 I/O, TCK (io), 27 I/O (io), 28 I/O (io), 30 I/O (io), 31 I/O (io), 32 I/O, TDO (io), 33 I/O (io), 34 I/O (io), 35 I/O (io)
part C pins: 4 PORT_EN (in), 37 IN3/CLK3 (in), 38 IN2/CLK2 (in), 39 IN1/CLK1 (in), 40 IN0/CLK0 (in)
part D pins: 9 VCC (power), 17 VCC (power), 29 VCC (power), 41 VCC (power)
part E pins: 16 GND (power), 24 GND (power), 36 GND (power)
part A text: BANK 1
part B text: BANK 2

## XCR3032XL-7VQG44C
designator U?
CoolRunner XPLA3 3.3V, 32 Macrocell CPLD, 36 User I/Os, 44-Pin VQFP, Commercial Grade, Pb-Free; DatasheetVersion: ver2.2, Sep-2008; PackageVersion: ver1.2, Jun-2004; PackageReference: VQG44; PackageDescription: 44-Pin Very Thin Quad Flat Pack (VQG44) - Pb-Free; Code_JEDEC: MS-026-ACB; ComponentLink1Description: Manufacturer URL; ComponentLink1URL: http://www.xilinx.com/; ComponentLink2Description: XCR3032XL Datasheet; ComponentLink2URL: http://www.xilinx.com/support/documentation/data_sheets/ds023.pdf; ComponentLink3Description: VQG44 Package Drawing; ComponentLink3URL: http://www.xilinx.com/support/documentation/package_specs/vq44.pdf; ComponentLink4Description: CoolRunner XPLA3 Documents; ComponentLink4URL: http://www.xilinx.com/support/documentation/coolrunner_xpla3.htm
footprint VQG44_N (Thin QFP, 44-Leads, Body 10x10mm, Pitch 0.8mm, IPC Medium Density)
footprint VQG44_L (Thin QFP, 44-Leads, Body 10x10mm, Pitch 0.8mm, IPC High Density)
footprint VQG44_M (Thin QFP, 44-Leads, Body 10x10mm, Pitch 0.8mm, IPC Low Density)
part A pins: 1 I/O, TDI (io), 2 I/O (io), 3 I/O (io), 5 I/O (io), 6 I/O (io), 7 I/O, TMS (io), 8 I/O (io), 10 I/O (io), 11 I/O (io), 12 I/O (io), 13 I/O (io), 14 I/O (io), 15 I/O (io), 42 I/O (io), 43 I/O (io), 44 I/O (io)
part B pins: 18 I/O (io), 19 I/O (io), 20 I/O (io), 21 I/O (io), 22 I/O (io), 23 I/O (io), 25 I/O (io), 26 I/O, TCK (io), 27 I/O (io), 28 I/O (io), 30 I/O (io), 31 I/O (io), 32 I/O, TDO (io), 33 I/O (io), 34 I/O (io), 35 I/O (io)
part C pins: 4 PORT_EN (in), 37 IN3/CLK3 (in), 38 IN2/CLK2 (in), 39 IN1/CLK1 (in), 40 IN0/CLK0 (in)
part D pins: 9 VCC (power), 17 VCC (power), 29 VCC (power), 41 VCC (power)
part E pins: 16 GND (power), 24 GND (power), 36 GND (power)
part A text: BANK 1
part B text: BANK 2

## XCR3032XL-7VQG44I
designator U?
CoolRunner XPLA3 3.3V, 32 Macrocell CPLD, 36 User I/Os, 44-Pin VQFP, Industrial Grade, Pb-Free; DatasheetVersion: ver2.2, Sep-2008; PackageVersion: ver1.2, Jun-2004; PackageReference: VQG44; PackageDescription: 44-Pin Very Thin Quad Flat Pack (VQG44) - Pb-Free; Code_JEDEC: MS-026-ACB; ComponentLink1Description: Manufacturer URL; ComponentLink1URL: http://www.xilinx.com/; ComponentLink2Description: XCR3032XL Datasheet; ComponentLink2URL: http://www.xilinx.com/support/documentation/data_sheets/ds023.pdf; ComponentLink3Description: VQG44 Package Drawing; ComponentLink3URL: http://www.xilinx.com/support/documentation/package_specs/vq44.pdf; ComponentLink4Description: CoolRunner XPLA3 Documents; ComponentLink4URL: http://www.xilinx.com/support/documentation/coolrunner_xpla3.htm
footprint VQG44_N (Thin QFP, 44-Leads, Body 10x10mm, Pitch 0.8mm, IPC Medium Density)
footprint VQG44_L (Thin QFP, 44-Leads, Body 10x10mm, Pitch 0.8mm, IPC High Density)
footprint VQG44_M (Thin QFP, 44-Leads, Body 10x10mm, Pitch 0.8mm, IPC Low Density)
part A pins: 1 I/O, TDI (io), 2 I/O (io), 3 I/O (io), 5 I/O (io), 6 I/O (io), 7 I/O, TMS (io), 8 I/O (io), 10 I/O (io), 11 I/O (io), 12 I/O (io), 13 I/O (io), 14 I/O (io), 15 I/O (io), 42 I/O (io), 43 I/O (io), 44 I/O (io)
part B pins: 18 I/O (io), 19 I/O (io), 20 I/O (io), 21 I/O (io), 22 I/O (io), 23 I/O (io), 25 I/O (io), 26 I/O, TCK (io), 27 I/O (io), 28 I/O (io), 30 I/O (io), 31 I/O (io), 32 I/O, TDO (io), 33 I/O (io), 34 I/O (io), 35 I/O (io)
part C pins: 4 PORT_EN (in), 37 IN3/CLK3 (in), 38 IN2/CLK2 (in), 39 IN1/CLK1 (in), 40 IN0/CLK0 (in)
part D pins: 9 VCC (power), 17 VCC (power), 29 VCC (power), 41 VCC (power)
part E pins: 16 GND (power), 24 GND (power), 36 GND (power)
part A text: BANK 1
part B text: BANK 2

## XCR3032XL-10CS48C
designator U?
CoolRunner XPLA3 3.3V, 32 Macrocell CPLD, 36 User I/Os, 48-Ball CSBGA, Commercial Grade; DatasheetVersion: ver2.2, Sep-2008; PackageVersion: ver1.2.1, Apr-2005; PackageReference: CS48; PackageDescription: 48-Ball Chip Scale Ball Grid Array (CS48); ComponentLink1Description: Manufacturer URL; ComponentLink1URL: http://www.xilinx.com/; ComponentLink2Description: XCR3032XL Datasheet; ComponentLink2URL: http://www.xilinx.com/support/documentation/data_sheets/ds023.pdf; ComponentLink3Description: CS48 Package Drawing; ComponentLink3URL: http://www.xilinx.com/support/documentation/package_specs/cs48.pdf; ComponentLink4Description: CoolRunner XPLA3 Documents; ComponentLink4URL: http://www.xilinx.com/support/documentation/coolrunner_xpla3.htm
footprint CS48 (BGA, 48-Leads, Body 7x7mm, Pitch 0.8mm)
part A pins: A1 I/O (io), A2 I/O (io), B1 I/O, TDI (io), C1 I/O (io), C2 I/O (io), C4 I/O (io), D1 I/O (io), D2 I/O, TMS (io), D3 I/O (io), E1 I/O (io), E4 I/O (io), F1 I/O (io), F2 I/O (io), F3 I/O (io), G1 I/O (io), G2 I/O (io)
part B pins: A6 I/O (io), B6 I/O (io), B7 I/O, TDO (io), C5 I/O (io), C6 I/O (io), D4 I/O (io), D6 I/O (io), D7 I/O (io), E5 I/O, TCK (io), E7 I/O (io), F4 I/O (io), F5 I/O (io), F7 I/O (io), G5 I/O (io), G6 I/O (io), G7 I/O (io)
part C pins: A3 IN0/CLK0 (in), A4 IN2/CLK2 (in), B4 IN1/CLK1 (in), B5 IN3/CLK3 (in), C3 PORT_EN (in)
part D pins: B3 VCC (power), C7 VCC (power), E2 VCC (power), G4 VCC (power)
part E pins: A5 GND (power), E3 GND (power), E6 GND (power)
part F pins: A7 NC, B2 NC, F6 NC, G3 NC
part A text: BANK 1
part B text: BANK 2

## XCR3032XL-10CS48I
designator U?
CoolRunner XPLA3 3.3V, 32 Macrocell CPLD, 36 User I/Os, 48-Ball CSBGA, Industrial Grade; DatasheetVersion: ver2.2, Sep-2008; PackageVersion: ver1.2.1, Apr-2005; PackageReference: CS48; PackageDescription: 48-Ball Chip Scale Ball Grid Array (CS48); ComponentLink1Description: Manufacturer URL; ComponentLink1URL: http://www.xilinx.com/; ComponentLink2Description: XCR3032XL Datasheet; ComponentLink2URL: http://www.xilinx.com/support/documentation/data_sheets/ds023.pdf; ComponentLink3Description: CS48 Package Drawing; ComponentLink3URL: http://www.xilinx.com/support/documentation/package_specs/cs48.pdf; ComponentLink4Description: CoolRunner XPLA3 Documents; ComponentLink4URL: http://www.xilinx.com/support/documentation/coolrunner_xpla3.htm
footprint CS48 (BGA, 48-Leads, Body 7x7mm, Pitch 0.8mm)
part A pins: A1 I/O (io), A2 I/O (io), B1 I/O, TDI (io), C1 I/O (io), C2 I/O (io), C4 I/O (io), D1 I/O (io), D2 I/O, TMS (io), D3 I/O (io), E1 I/O (io), E4 I/O (io), F1 I/O (io), F2 I/O (io), F3 I/O (io), G1 I/O (io), G2 I/O (io)
part B pins: A6 I/O (io), B6 I/O (io), B7 I/O, TDO (io), C5 I/O (io), C6 I/O (io), D4 I/O (io), D6 I/O (io), D7 I/O (io), E5 I/O, TCK (io), E7 I/O (io), F4 I/O (io), F5 I/O (io), F7 I/O (io), G5 I/O (io), G6 I/O (io), G7 I/O (io)
part C pins: A3 IN0/CLK0 (in), A4 IN2/CLK2 (in), B4 IN1/CLK1 (in), B5 IN3/CLK3 (in), C3 PORT_EN (in)
part D pins: B3 VCC (power), C7 VCC (power), E2 VCC (power), G4 VCC (power)
part E pins: A5 GND (power), E3 GND (power), E6 GND (power)
part F pins: A7 NC, B2 NC, F6 NC, G3 NC
part A text: BANK 1
part B text: BANK 2

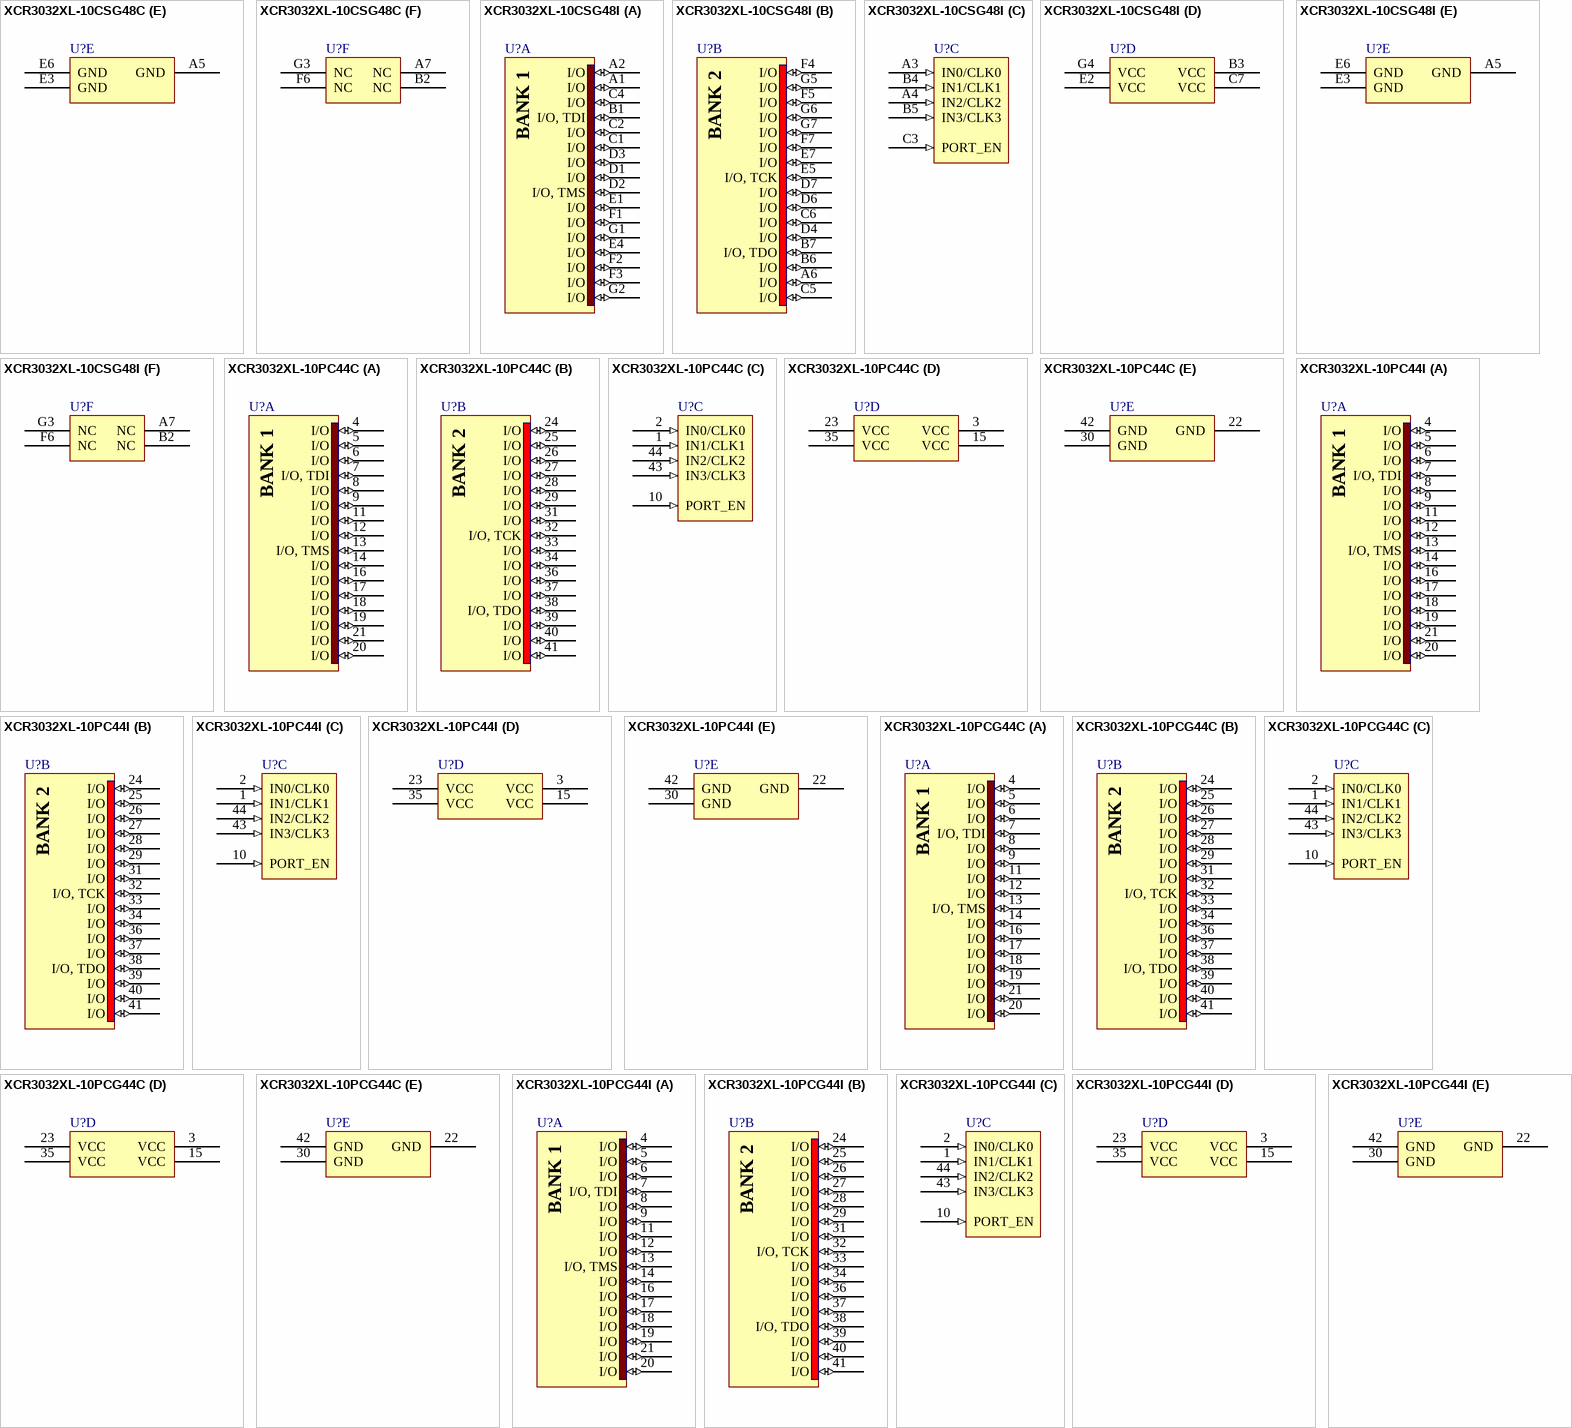
[diagram p4: symbols XCR3032XL-10CSG48C to XCR3032XL-10PCG44I]

## XCR3032XL-10CSG48C
designator U?
CoolRunner XPLA3 3.3V, 32 Macrocell CPLD, 36 User I/Os, 48-Ball CSBGA, Commercial Grade, Pb-Free; DatasheetVersion: ver2.2, Sep-2008; PackageVersion: ver1.2.1, Apr-2005; PackageReference: CSG48; PackageDescription: 48-Ball Chip Scale Ball Grid Array (CSG48) - Pb-Free; ComponentLink1Description: Manufacturer URL; ComponentLink1URL: http://www.xilinx.com/; ComponentLink2Description: XCR3032XL Datasheet; ComponentLink2URL: http://www.xilinx.com/support/documentation/data_sheets/ds023.pdf; ComponentLink3Description: CSG48 Package Drawing; ComponentLink3URL: http://www.xilinx.com/support/documentation/package_specs/cs48.pdf; ComponentLink4Description: CoolRunner XPLA3 Documents; ComponentLink4URL: http://www.xilinx.com/support/documentation/coolrunner_xpla3.htm
footprint CSG48 (BGA, 48-Leads, Body 7x7mm, Pitch 0.8mm)
part A pins: A1 I/O (io), A2 I/O (io), B1 I/O, TDI (io), C1 I/O (io), C2 I/O (io), C4 I/O (io), D1 I/O (io), D2 I/O, TMS (io), D3 I/O (io), E1 I/O (io), E4 I/O (io), F1 I/O (io), F2 I/O (io), F3 I/O (io), G1 I/O (io), G2 I/O (io)
part B pins: A6 I/O (io), B6 I/O (io), B7 I/O, TDO (io), C5 I/O (io), C6 I/O (io), D4 I/O (io), D6 I/O (io), D7 I/O (io), E5 I/O, TCK (io), E7 I/O (io), F4 I/O (io), F5 I/O (io), F7 I/O (io), G5 I/O (io), G6 I/O (io), G7 I/O (io)
part C pins: A3 IN0/CLK0 (in), A4 IN2/CLK2 (in), B4 IN1/CLK1 (in), B5 IN3/CLK3 (in), C3 PORT_EN (in)
part D pins: B3 VCC (power), C7 VCC (power), E2 VCC (power), G4 VCC (power)
part E pins: A5 GND (power), E3 GND (power), E6 GND (power)
part F pins: A7 NC, B2 NC, F6 NC, G3 NC
part A text: BANK 1
part B text: BANK 2

## XCR3032XL-10CSG48I
designator U?
CoolRunner XPLA3 3.3V, 32 Macrocell CPLD, 36 User I/Os, 48-Ball CSBGA, Industrial Grade, Pb-Free; DatasheetVersion: ver2.2, Sep-2008; PackageVersion: ver1.2.1, Apr-2005; PackageReference: CSG48; PackageDescription: 48-Ball Chip Scale Ball Grid Array (CSG48) - Pb-Free; ComponentLink1Description: Manufacturer URL; ComponentLink1URL: http://www.xilinx.com/; ComponentLink2Description: XCR3032XL Datasheet; ComponentLink2URL: http://www.xilinx.com/support/documentation/data_sheets/ds023.pdf; ComponentLink3Description: CSG48 Package Drawing; ComponentLink3URL: http://www.xilinx.com/support/documentation/package_specs/cs48.pdf; ComponentLink4Description: CoolRunner XPLA3 Documents; ComponentLink4URL: http://www.xilinx.com/support/documentation/coolrunner_xpla3.htm
footprint CSG48 (BGA, 48-Leads, Body 7x7mm, Pitch 0.8mm)
part A pins: A1 I/O (io), A2 I/O (io), B1 I/O, TDI (io), C1 I/O (io), C2 I/O (io), C4 I/O (io), D1 I/O (io), D2 I/O, TMS (io), D3 I/O (io), E1 I/O (io), E4 I/O (io), F1 I/O (io), F2 I/O (io), F3 I/O (io), G1 I/O (io), G2 I/O (io)
part B pins: A6 I/O (io), B6 I/O (io), B7 I/O, TDO (io), C5 I/O (io), C6 I/O (io), D4 I/O (io), D6 I/O (io), D7 I/O (io), E5 I/O, TCK (io), E7 I/O (io), F4 I/O (io), F5 I/O (io), F7 I/O (io), G5 I/O (io), G6 I/O (io), G7 I/O (io)
part C pins: A3 IN0/CLK0 (in), A4 IN2/CLK2 (in), B4 IN1/CLK1 (in), B5 IN3/CLK3 (in), C3 PORT_EN (in)
part D pins: B3 VCC (power), C7 VCC (power), E2 VCC (power), G4 VCC (power)
part E pins: A5 GND (power), E3 GND (power), E6 GND (power)
part F pins: A7 NC, B2 NC, F6 NC, G3 NC
part A text: BANK 1
part B text: BANK 2

## XCR3032XL-10PC44C
designator U?
CoolRunner XPLA3 3.3V, 32 Macrocell CPLD, 36 User I/Os, 44-Pin PLCC, Commercial Grade; DatasheetVersion: ver2.1, Mar-2006; PackageVersion: ver1.2, Jun-2004; PackageReference: PC44; PackageDescription: 44-Pin Plastic Leaded Chip Carrier (PC44); Code_JEDEC: MS-047; Code_IPC: PLCC-44; ComponentLink1Description: Manufacturer URL; ComponentLink1URL: http://www.xilinx.com/; ComponentLink2Description: XCR3032XL Datasheet; ComponentLink2URL: http://www.xilinx.com/support/documentation/data_sheets/ds023.pdf; ComponentLink3Description: PC44 Package Drawing; ComponentLink3URL: http://www.xilinx.com/support/documentation/package_specs/pc44.pdf; ComponentLink4Description: CoolRunner XPLA3 Documents; ComponentLink4URL: http://www.xilinx.com/support/documentation/coolrunner_xpla3.htm
footprint PC44_N (Leaded Chip Carrier, 44-Leads, Body 16.6x16.6mm, Pitch 1.27mm, IPC Medium Density)
footprint PC44_L (Leaded Chip Carrier, 44-Leads, Body 16.6x16.6mm, Pitch 1.27mm, IPC High Density)
footprint PC44_M (Leaded Chip Carrier, 44-Leads, Body 16.6x16.6mm, Pitch 1.27mm, IPC Low Density)
part A pins: 4 I/O (io), 5 I/O (io), 6 I/O (io), 7 I/O, TDI (io), 8 I/O (io), 9 I/O (io), 11 I/O (io), 12 I/O (io), 13 I/O, TMS (io), 14 I/O (io), 16 I/O (io), 17 I/O (io), 18 I/O (io), 19 I/O (io), 20 I/O (io), 21 I/O (io)
part B pins: 24 I/O (io), 25 I/O (io), 26 I/O (io), 27 I/O (io), 28 I/O (io), 29 I/O (io), 31 I/O (io), 32 I/O, TCK (io), 33 I/O (io), 34 I/O (io), 36 I/O (io), 37 I/O (io), 38 I/O, TDO (io), 39 I/O (io), 40 I/O (io), 41 I/O (io)
part C pins: 1 IN1/CLK1 (in), 2 IN0/CLK0 (in), 10 PORT_EN (in), 43 IN3/CLK3 (in), 44 IN2/CLK2 (in)
part D pins: 3 VCC (power), 15 VCC (power), 23 VCC (power), 35 VCC (power)
part E pins: 22 GND (power), 30 GND (power), 42 GND (power)
part A text: BANK 1
part B text: BANK 2

## XCR3032XL-10PC44I
designator U?
CoolRunner XPLA3 3.3V, 32 Macrocell CPLD, 36 User I/Os, 44-Pin PLCC, Industrial Grade; DatasheetVersion: ver2.1, Mar-2006; PackageVersion: ver1.2, Jun-2004; PackageReference: PC44; PackageDescription: 44-Pin Plastic Leaded Chip Carrier (PC44); Code_JEDEC: MS-047; Code_IPC: PLCC-44; ComponentLink1Description: Manufacturer URL; ComponentLink1URL: http://www.xilinx.com/; ComponentLink2Description: XCR3032XL Datasheet; ComponentLink2URL: http://www.xilinx.com/support/documentation/data_sheets/ds023.pdf; ComponentLink3Description: PC44 Package Drawing; ComponentLink3URL: http://www.xilinx.com/support/documentation/package_specs/pc44.pdf; ComponentLink4Description: CoolRunner XPLA3 Documents; ComponentLink4URL: http://www.xilinx.com/support/documentation/coolrunner_xpla3.htm
footprint PC44_N (Leaded Chip Carrier, 44-Leads, Body 16.6x16.6mm, Pitch 1.27mm, IPC Medium Density)
footprint PC44_L (Leaded Chip Carrier, 44-Leads, Body 16.6x16.6mm, Pitch 1.27mm, IPC High Density)
footprint PC44_M (Leaded Chip Carrier, 44-Leads, Body 16.6x16.6mm, Pitch 1.27mm, IPC Low Density)
part A pins: 4 I/O (io), 5 I/O (io), 6 I/O (io), 7 I/O, TDI (io), 8 I/O (io), 9 I/O (io), 11 I/O (io), 12 I/O (io), 13 I/O, TMS (io), 14 I/O (io), 16 I/O (io), 17 I/O (io), 18 I/O (io), 19 I/O (io), 20 I/O (io), 21 I/O (io)
part B pins: 24 I/O (io), 25 I/O (io), 26 I/O (io), 27 I/O (io), 28 I/O (io), 29 I/O (io), 31 I/O (io), 32 I/O, TCK (io), 33 I/O (io), 34 I/O (io), 36 I/O (io), 37 I/O (io), 38 I/O, TDO (io), 39 I/O (io), 40 I/O (io), 41 I/O (io)
part C pins: 1 IN1/CLK1 (in), 2 IN0/CLK0 (in), 10 PORT_EN (in), 43 IN3/CLK3 (in), 44 IN2/CLK2 (in)
part D pins: 3 VCC (power), 15 VCC (power), 23 VCC (power), 35 VCC (power)
part E pins: 22 GND (power), 30 GND (power), 42 GND (power)
part A text: BANK 1
part B text: BANK 2

## XCR3032XL-10PCG44C
designator U?
CoolRunner XPLA3 3.3V, 32 Macrocell CPLD, 36 User I/Os, 44-Pin PLCC, Commercial Grade, Pb-Free; DatasheetVersion: ver2.1, Mar-2006; PackageVersion: ver1.2, Jun-2004; PackageReference: PCG44; PackageDescription: 44-Pin Plastic Leaded Chip Carrier (PCG44) - Pb-Free; Code_JEDEC: MS-047; Code_IPC: PLCC-44; ComponentLink1Description: Manufacturer URL; ComponentLink1URL: http://www.xilinx.com/; ComponentLink2Description: XCR3032XL Datasheet; ComponentLink2URL: http://www.xilinx.com/support/documentation/data_sheets/ds023.pdf; ComponentLink3Description: PCG44 Package Drawing; ComponentLink3URL: http://www.xilinx.com/support/documentation/package_specs/pc44.pdf; ComponentLink4Description: CoolRunner XPLA3 Documents; ComponentLink4URL: http://www.xilinx.com/support/documentation/coolrunner_xpla3.htm
footprint PCG44_N (Leaded Chip Carrier, 44-Leads, Body 16.6x16.6mm, Pitch 1.27mm, IPC Medium Density)
footprint PCG44_L (Leaded Chip Carrier, 44-Leads, Body 16.6x16.6mm, Pitch 1.27mm, IPC High Density)
footprint PCG44_M (Leaded Chip Carrier, 44-Leads, Body 16.6x16.6mm, Pitch 1.27mm, IPC Low Density)
part A pins: 4 I/O (io), 5 I/O (io), 6 I/O (io), 7 I/O, TDI (io), 8 I/O (io), 9 I/O (io), 11 I/O (io), 12 I/O (io), 13 I/O, TMS (io), 14 I/O (io), 16 I/O (io), 17 I/O (io), 18 I/O (io), 19 I/O (io), 20 I/O (io), 21 I/O (io)
part B pins: 24 I/O (io), 25 I/O (io), 26 I/O (io), 27 I/O (io), 28 I/O (io), 29 I/O (io), 31 I/O (io), 32 I/O, TCK (io), 33 I/O (io), 34 I/O (io), 36 I/O (io), 37 I/O (io), 38 I/O, TDO (io), 39 I/O (io), 40 I/O (io), 41 I/O (io)
part C pins: 1 IN1/CLK1 (in), 2 IN0/CLK0 (in), 10 PORT_EN (in), 43 IN3/CLK3 (in), 44 IN2/CLK2 (in)
part D pins: 3 VCC (power), 15 VCC (power), 23 VCC (power), 35 VCC (power)
part E pins: 22 GND (power), 30 GND (power), 42 GND (power)
part A text: BANK 1
part B text: BANK 2

## XCR3032XL-10PCG44I
designator U?
CoolRunner XPLA3 3.3V, 32 Macrocell CPLD, 36 User I/Os, 44-Pin PLCC, Industrial Grade, Pb-Free; DatasheetVersion: ver2.1, Mar-2006; PackageVersion: ver1.2, Jun-2004; PackageReference: PCG44; PackageDescription: 44-Pin Plastic Leaded Chip Carrier (PCG44) - Pb-Free; Code_JEDEC: MS-047; Code_IPC: PLCC-44; ComponentLink1Description: Manufacturer URL; ComponentLink1URL: http://www.xilinx.com/; ComponentLink2Description: XCR3032XL Datasheet; ComponentLink2URL: http://www.xilinx.com/support/documentation/data_sheets/ds023.pdf; ComponentLink3Description: PCG44 Package Drawing; ComponentLink3URL: http://www.xilinx.com/support/documentation/package_specs/pc44.pdf; ComponentLink4Description: CoolRunner XPLA3 Documents; ComponentLink4URL: http://www.xilinx.com/support/documentation/coolrunner_xpla3.htm
footprint PCG44_N (Leaded Chip Carrier, 44-Leads, Body 16.6x16.6mm, Pitch 1.27mm, IPC Medium Density)
footprint PCG44_L (Leaded Chip Carrier, 44-Leads, Body 16.6x16.6mm, Pitch 1.27mm, IPC High Density)
footprint PCG44_M (Leaded Chip Carrier, 44-Leads, Body 16.6x16.6mm, Pitch 1.27mm, IPC Low Density)
part A pins: 4 I/O (io), 5 I/O (io), 6 I/O (io), 7 I/O, TDI (io), 8 I/O (io), 9 I/O (io), 11 I/O (io), 12 I/O (io), 13 I/O, TMS (io), 14 I/O (io), 16 I/O (io), 17 I/O (io), 18 I/O (io), 19 I/O (io), 20 I/O (io), 21 I/O (io)
part B pins: 24 I/O (io), 25 I/O (io), 26 I/O (io), 27 I/O (io), 28 I/O (io), 29 I/O (io), 31 I/O (io), 32 I/O, TCK (io), 33 I/O (io), 34 I/O (io), 36 I/O (io), 37 I/O (io), 38 I/O, TDO (io), 39 I/O (io), 40 I/O (io), 41 I/O (io)
part C pins: 1 IN1/CLK1 (in), 2 IN0/CLK0 (in), 10 PORT_EN (in), 43 IN3/CLK3 (in), 44 IN2/CLK2 (in)
part D pins: 3 VCC (power), 15 VCC (power), 23 VCC (power), 35 VCC (power)
part E pins: 22 GND (power), 30 GND (power), 42 GND (power)
part A text: BANK 1
part B text: BANK 2

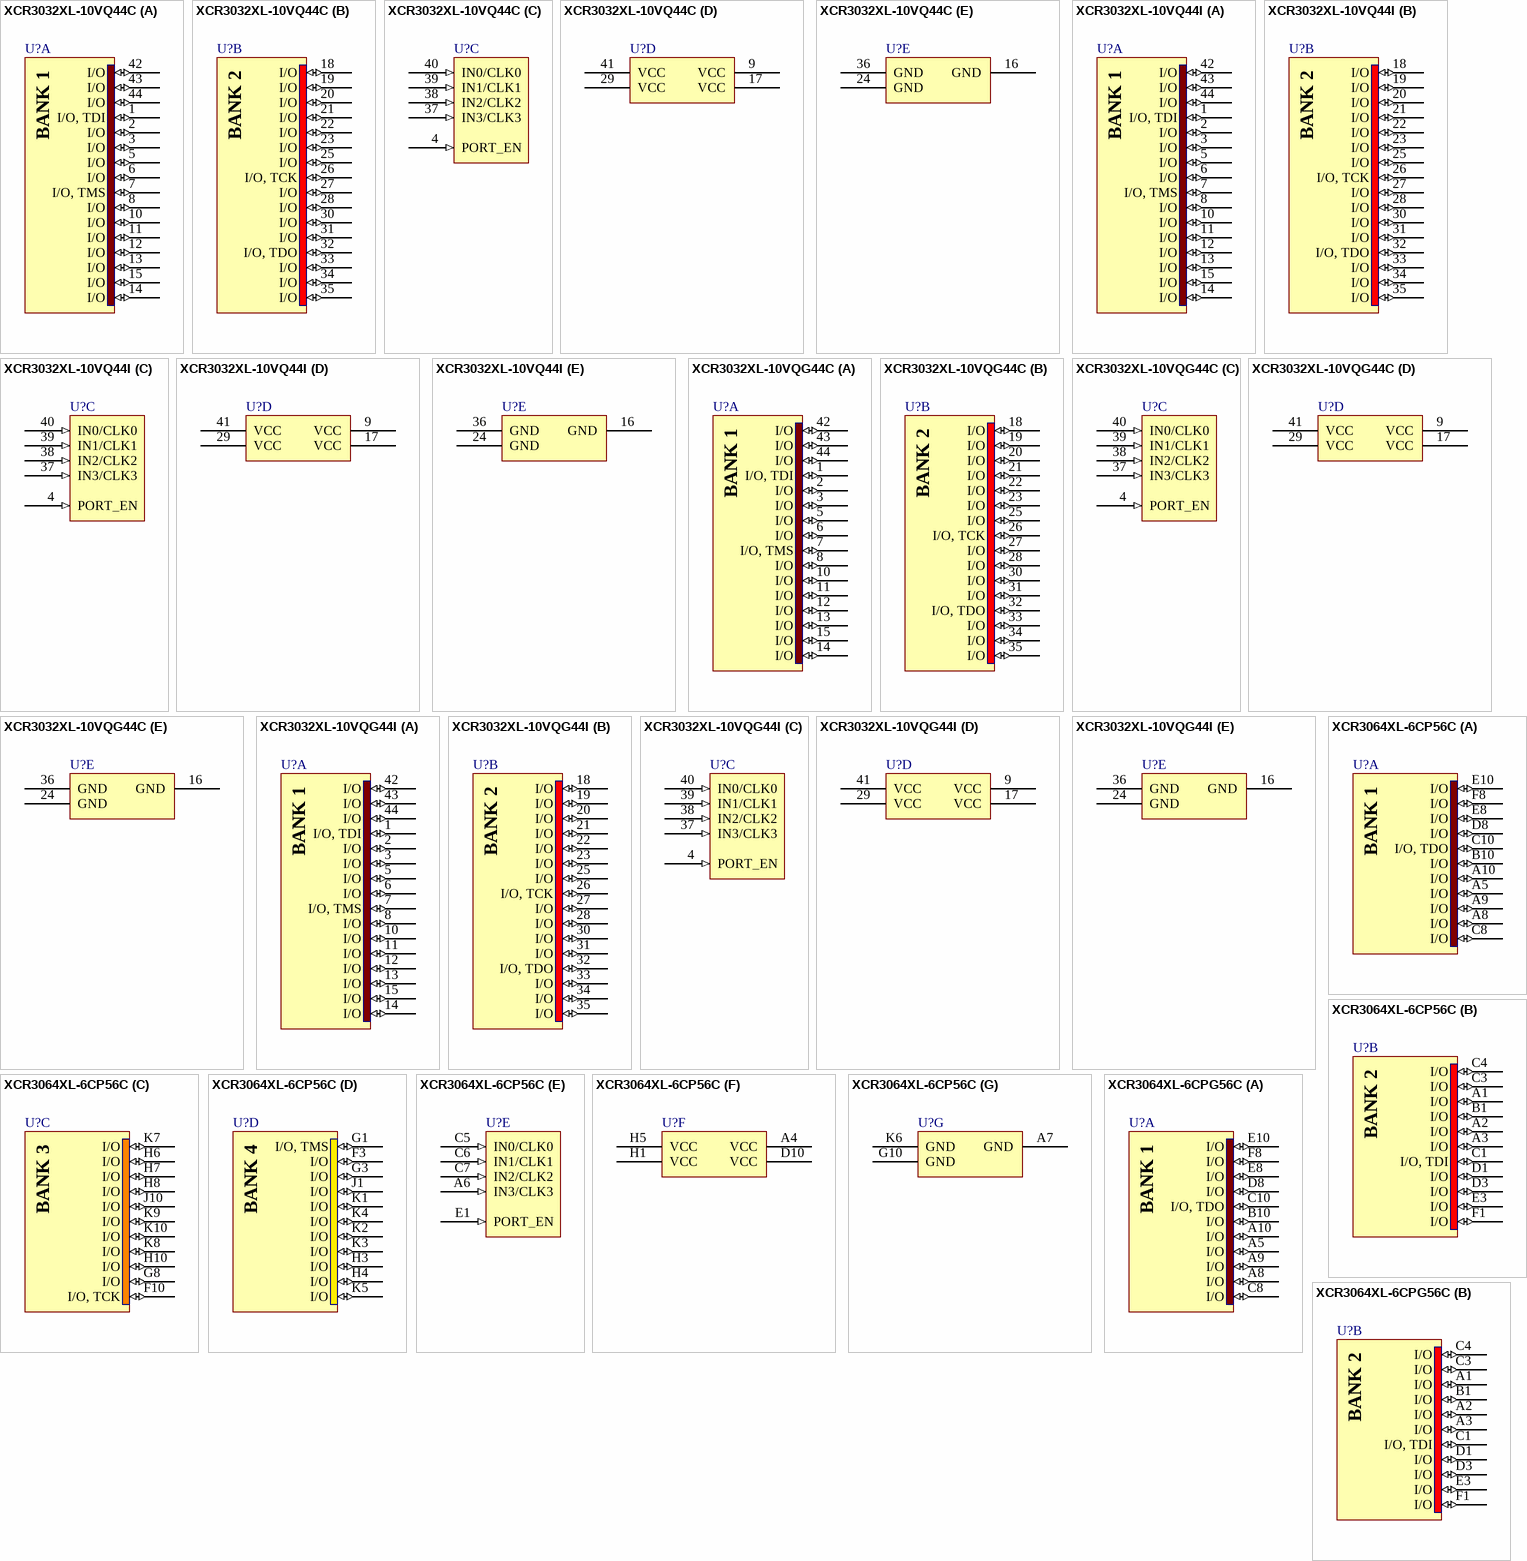
[diagram p5: symbols XCR3032XL-10VQ44C to XCR3064XL-6CPG56C]

## XCR3032XL-10VQ44C
designator U?
CoolRunner XPLA3 3.3V, 32 Macrocell CPLD, 36 User I/Os, 44-Pin VQFP, Commercial Grade; DatasheetVersion: ver2.2, Sep-2008; PackageVersion: ver1.2, Jun-2004; PackageReference: VQ44; PackageDescription: 44-Pin Very Thin Quad Flat Pack (VQ44); Code_JEDEC: MS-026-ACB; ComponentLink1Description: Manufacturer URL; ComponentLink1URL: http://www.xilinx.com/; ComponentLink2Description: XCR3032XL Datasheet; ComponentLink2URL: http://www.xilinx.com/support/documentation/data_sheets/ds023.pdf; ComponentLink3Description: VQ44 Package Drawing; ComponentLink3URL: http://www.xilinx.com/support/documentation/package_specs/vq44.pdf; ComponentLink4Description: CoolRunner XPLA3 Documents; ComponentLink4URL: http://www.xilinx.com/support/documentation/coolrunner_xpla3.htm
footprint VQ44_N (Thin QFP, 44-Leads, Body 10x10mm, Pitch 0.8mm, IPC Medium Density)
footprint VQ44_L (Thin QFP, 44-Leads, Body 10x10mm, Pitch 0.8mm, IPC High Density)
footprint VQ44_M (Thin QFP, 44-Leads, Body 10x10mm, Pitch 0.8mm, IPC Low Density)
part A pins: 1 I/O, TDI (io), 2 I/O (io), 3 I/O (io), 5 I/O (io), 6 I/O (io), 7 I/O, TMS (io), 8 I/O (io), 10 I/O (io), 11 I/O (io), 12 I/O (io), 13 I/O (io), 14 I/O (io), 15 I/O (io), 42 I/O (io), 43 I/O (io), 44 I/O (io)
part B pins: 18 I/O (io), 19 I/O (io), 20 I/O (io), 21 I/O (io), 22 I/O (io), 23 I/O (io), 25 I/O (io), 26 I/O, TCK (io), 27 I/O (io), 28 I/O (io), 30 I/O (io), 31 I/O (io), 32 I/O, TDO (io), 33 I/O (io), 34 I/O (io), 35 I/O (io)
part C pins: 4 PORT_EN (in), 37 IN3/CLK3 (in), 38 IN2/CLK2 (in), 39 IN1/CLK1 (in), 40 IN0/CLK0 (in)
part D pins: 9 VCC (power), 17 VCC (power), 29 VCC (power), 41 VCC (power)
part E pins: 16 GND (power), 24 GND (power), 36 GND (power)
part A text: BANK 1
part B text: BANK 2

## XCR3032XL-10VQ44I
designator U?
CoolRunner XPLA3 3.3V, 32 Macrocell CPLD, 36 User I/Os, 44-Pin VQFP, Industrial Grade; DatasheetVersion: ver2.2, Sep-2008; PackageVersion: ver1.2, Jun-2004; PackageReference: VQ44; PackageDescription: 44-Pin Very Thin Quad Flat Pack (VQ44); Code_JEDEC: MS-026-ACB; ComponentLink1Description: Manufacturer URL; ComponentLink1URL: http://www.xilinx.com/; ComponentLink2Description: XCR3032XL Datasheet; ComponentLink2URL: http://www.xilinx.com/support/documentation/data_sheets/ds023.pdf; ComponentLink3Description: VQ44 Package Drawing; ComponentLink3URL: http://www.xilinx.com/support/documentation/package_specs/vq44.pdf; ComponentLink4Description: CoolRunner XPLA3 Documents; ComponentLink4URL: http://www.xilinx.com/support/documentation/coolrunner_xpla3.htm
footprint VQ44_N (Thin QFP, 44-Leads, Body 10x10mm, Pitch 0.8mm, IPC Medium Density)
footprint VQ44_L (Thin QFP, 44-Leads, Body 10x10mm, Pitch 0.8mm, IPC High Density)
footprint VQ44_M (Thin QFP, 44-Leads, Body 10x10mm, Pitch 0.8mm, IPC Low Density)
part A pins: 1 I/O, TDI (io), 2 I/O (io), 3 I/O (io), 5 I/O (io), 6 I/O (io), 7 I/O, TMS (io), 8 I/O (io), 10 I/O (io), 11 I/O (io), 12 I/O (io), 13 I/O (io), 14 I/O (io), 15 I/O (io), 42 I/O (io), 43 I/O (io), 44 I/O (io)
part B pins: 18 I/O (io), 19 I/O (io), 20 I/O (io), 21 I/O (io), 22 I/O (io), 23 I/O (io), 25 I/O (io), 26 I/O, TCK (io), 27 I/O (io), 28 I/O (io), 30 I/O (io), 31 I/O (io), 32 I/O, TDO (io), 33 I/O (io), 34 I/O (io), 35 I/O (io)
part C pins: 4 PORT_EN (in), 37 IN3/CLK3 (in), 38 IN2/CLK2 (in), 39 IN1/CLK1 (in), 40 IN0/CLK0 (in)
part D pins: 9 VCC (power), 17 VCC (power), 29 VCC (power), 41 VCC (power)
part E pins: 16 GND (power), 24 GND (power), 36 GND (power)
part A text: BANK 1
part B text: BANK 2